# Altium integrated library CDE_Library.IntLib: 6171 symbols (part 3 of 25)
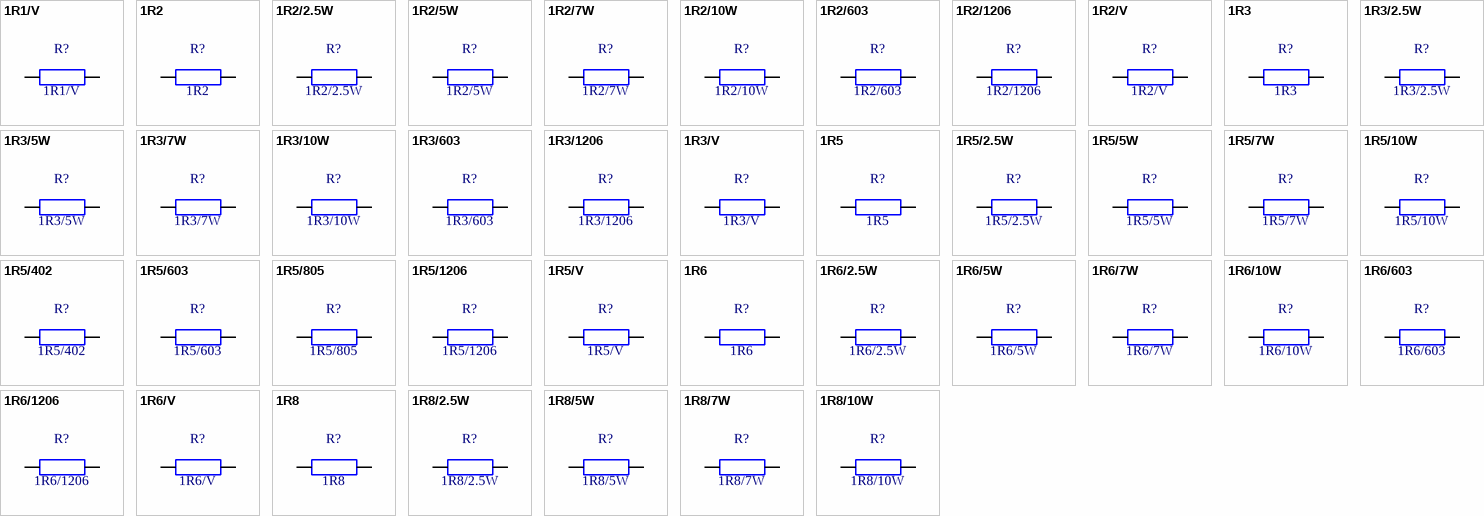
[diagram p259: symbols 1R1/V to 1R8/10W]

## 1R5/7W
designator R?
weerstand 1R5 7W
footprint ws 7W H
pins: 1, 2

## 1R5/10W
designator R?
weerstand 1R5 10W
footprint ws 10W H
pins: 1, 2

## 1R5/402
designator R?
weerstand SMD402, 1R5
footprint smd C0402_0.35
pins: 1, 2

## 1R5/603
designator R?
weerstand SMD603, 1R5
footprint smd C0603_0.45
pins: 1, 2

## 1R5/805
designator R?
weerstand SMD805, 1R5
footprint smd C0805_0.50
pins: 1, 2

## 1R5/1206
designator R?
weerstand SMD1206, 1R5
footprint smd C1206_0.55
pins: 1, 2

## 1R5/V
designator R?
weerstand 1R5 0.6W, vertikaal
footprint ws 0.6W V
pins: 1, 2

## 1R6
designator R?
weerstand 1R6 0.6W
footprint ws 0.6W H
pins: 1, 2

## 1R6/2.5W
designator R?
weerstand 1R6 2.5W
footprint ws 2.5W H
pins: 1, 2

## 1R6/5W
designator R?
weerstand 1R6 5W
footprint ws 5W H
pins: 1, 2

## 1R6/7W
designator R?
weerstand 1R6 7W
footprint ws 7W H
pins: 1, 2

## 1R6/10W
designator R?
weerstand 1R6 10W
footprint ws 10W H
pins: 1, 2

## 1R6/603
designator R?
weerstand SMD603, 1R6
footprint smd C0603_0.45
pins: 1, 2

## 1R6/1206
designator R?
weerstand SMD1206, 1R6
footprint smd C1206_0.55
pins: 1, 2

## 1R6/V
designator R?
weerstand 1R6 0.6W, vertikaal
footprint ws 0.6W V
pins: 1, 2

## 1R8
designator R?
weerstand 1R8 0.6W
footprint ws 0.6W H
pins: 1, 2

## 1R8/2.5W
designator R?
weerstand 1R8 2.5W
footprint ws 2.5W H
pins: 1, 2

## 1R8/5W
designator R?
weerstand 1R8 5W
footprint ws 5W H
pins: 1, 2

## 1R8/7W
designator R?
weerstand 1R8 7W
footprint ws 7W H
pins: 1, 2

## 1R8/10W
designator R?
weerstand 1R8 10W
footprint ws 10W H
pins: 1, 2

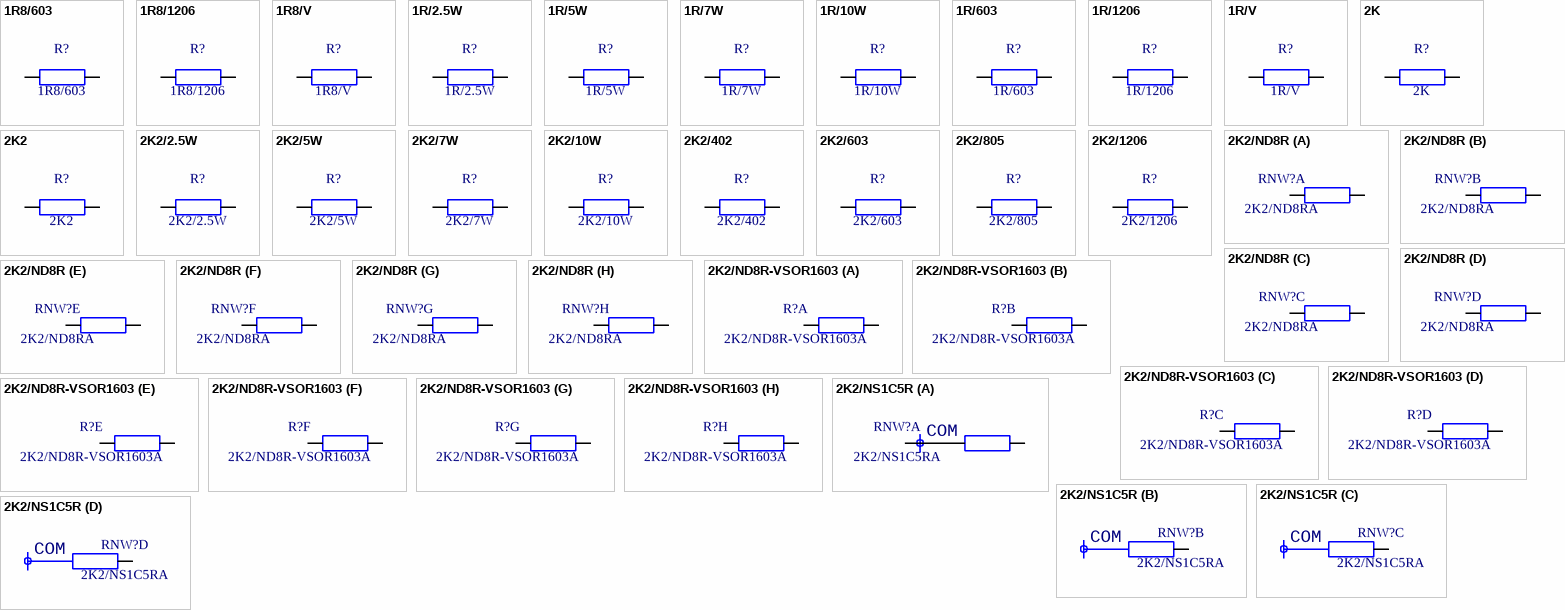
[diagram p31: symbols 1R8/603 to 2K2/NS1C5R]

## 1R8/603
designator R?
weerstand SMD603, 1R8
footprint smd C0603_0.45
pins: 1, 2

## 1R8/1206
designator R?
weerstand SMD1206, 1R8
footprint smd C1206_0.55
pins: 1, 2

## 1R8/V
designator R?
weerstand 1R8 0.6W, vertikaal
footprint ws 0.6W V
pins: 1, 2

## 1R/2.5W
designator R?
weerstand 1R 2.5W
footprint ws 2.5W H
pins: 1, 2

## 1R/5W
designator R?
weerstand 1R 5W
footprint ws 5W H
pins: 1, 2

## 1R/7W
designator R?
weerstand 1R 7W
footprint ws 7W H
pins: 1, 2

## 1R/10W
designator R?
weerstand 1R 10W
footprint ws 10W H
pins: 1, 2

## 1R/603
designator R?
weerstand SMD603, 1R
footprint smd C0603_0.45
pins: 1, 2

## 1R/1206
designator R?
weerstand SMD1206, 1R
footprint smd C1206_0.55
pins: 1, 2

## 1R/V
designator R?
weerstand 1R 0.6W, vertikaal
footprint ws 0.6W V
pins: 1, 2

## 2K
designator R?
weerstand 2K 0.6W
footprint ws 0.6W H
pins: 1, 2

## 2K2
designator R?
weerstand 2K2 0.6W
footprint ws 0.6W H
pins: 1, 2

## 2K2/2.5W
designator R?
weerstand 2K2 2.5W
footprint ws 2.5W H
pins: 1, 2

## 2K2/5W
designator R?
weerstand 2K2 5W
footprint ws 5W H
pins: 1, 2

## 2K2/7W
designator R?
weerstand 2K2 7W
footprint ws 7W H
pins: 1, 2

## 2K2/10W
designator R?
weerstand 2K2 10W
footprint ws 10W H
pins: 1, 2

## 2K2/402
designator R?
weerstand SMD402, 2K2
footprint smd C0402_0.35
pins: 1, 2

## 2K2/603
designator R?
weerstand SMD603, 2K2
footprint smd C0603_0.45
pins: 1, 2

## 2K2/805
designator R?
weerstand SMD805, 2K2
footprint smd C0805_0.50
pins: 1, 2

## 2K2/1206
designator R?
weerstand SMD1206, 2K2
footprint smd C1206_0.55
pins: 1, 2

## 2K2/ND8R
designator RNW?, comment 2K2/ND8RA
weerstandsnetwerk, DIL, 8 x 2K2
footprint icv DIP16-300
part A pins: 1, 16
part B pins: 2, 15
part C pins: 3, 14
part D pins: 4, 13
part E pins: 5, 12
part F pins: 6, 11
part G pins: 7, 10
part H pins: 8, 9

## 2K2/ND8R-VSOR1603
designator R?, comment 2K2/ND8R-VSOR1603A
weerstandsnetwerk, DIL, smd, Vishay VSOR1603, 8 x 2K2
footprint smd SOICN/16
part A pins: 1, 16
part B pins: 2, 15
part C pins: 3, 14
part D pins: 4, 13
part E pins: 5, 12
part F pins: 6, 11
part G pins: 7, 10
part H pins: 8, 9

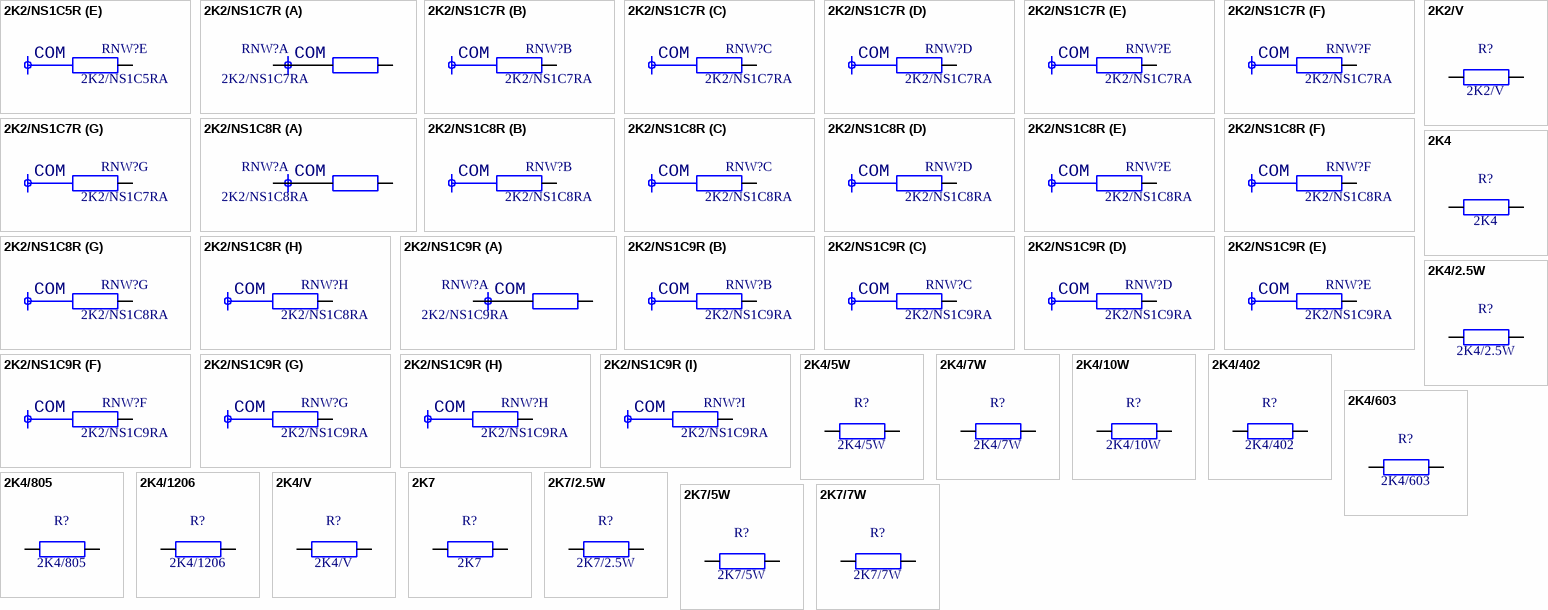
[diagram p32: symbols 2K2/NS1C5R to 2K7/7W]

## 2K2/NS1C5R
designator RNW?, comment 2K2/NS1C5RA
weerstandsnetwerk, SIL, 1 gemeens.pin, 5 weerst., 2K2
footprint ws netwerk 5xR 1C (SIL)
part A pins: 1, 2
part B pins: 3
part C pins: 4
part D pins: 5
part E pins: 6
part A text: COM
part B text: COM
part C text: COM
part D text: COM
part E text: COM

## 2K2/NS1C7R
designator RNW?, comment 2K2/NS1C7RA
weerstandsnetwerk, SIL, 1 gemeens.pin, 7 weerst., 2K2
footprint ws netwerk 7xR 1C (SIL)
part A pins: 1, 2
part B pins: 3
part C pins: 4
part D pins: 5
part E pins: 6
part F pins: 7
part G pins: 8
part A text: COM
part B text: COM
part C text: COM
part D text: COM
part E text: COM
part F text: COM
part G text: COM

## 2K2/NS1C8R
designator RNW?, comment 2K2/NS1C8RA
weerstandsnetwerk, SIL, 1 gemeens.pin, 8 weerst., 2K2
footprint ws netwerk 8xR 1C (SIL)
part A pins: 1, 2
part B pins: 3
part C pins: 4
part D pins: 5
part E pins: 6
part F pins: 7
part G pins: 8
part H pins: 9
part A text: COM
part B text: COM
part C text: COM
part D text: COM
part E text: COM
part F text: COM
part G text: COM
part H text: COM

## 2K2/NS1C9R
designator RNW?, comment 2K2/NS1C9RA
weerstandsnetwerk, SIL, 1 gemeens.pin, 9 weerst., 2K2
footprint ws netwerk 9xR 1C (SIL)
part A pins: 1, 2
part B pins: 3
part C pins: 4
part D pins: 5
part E pins: 6
part F pins: 7
part G pins: 8
part H pins: 9
part I pins: 10
part A text: COM
part B text: COM
part C text: COM
part D text: COM
part E text: COM
part F text: COM
part G text: COM
part H text: COM
part I text: COM

## 2K2/V
designator R?
weerstand 2K2 0.6W, vertikaal
footprint ws 0.6W V
pins: 1, 2

## 2K4
designator R?
weerstand 2K4 0.6W
footprint ws 0.6W H
pins: 1, 2

## 2K4/2.5W
designator R?
weerstand 2K4 2.5W
footprint ws 2.5W H
pins: 1, 2

## 2K4/5W
designator R?
weerstand 2K4 5W
footprint ws 5W H
pins: 1, 2

## 2K4/7W
designator R?
weerstand 2K4 7W
footprint ws 7W H
pins: 1, 2

## 2K4/10W
designator R?
weerstand 2K4 10W
footprint ws 10W H
pins: 1, 2

## 2K4/402
designator R?
weerstand SMD402, 2K4
footprint smd C0402_0.35
pins: 1, 2

## 2K4/603
designator R?
weerstand SMD603, 2K4
footprint smd C0603_0.45
pins: 1, 2

## 2K4/805
designator R?
weerstand SMD805, 2K4
footprint smd C0805_0.50
pins: 1, 2

## 2K4/1206
designator R?
weerstand SMD1206, 2K4
footprint smd C1206_0.55
pins: 1, 2

## 2K4/V
designator R?
weerstand 2K4 0.6W, vertikaal
footprint ws 0.6W V
pins: 1, 2

## 2K7
designator R?
weerstand 2K7 0.6W
footprint ws 0.6W H
pins: 1, 2

## 2K7/2.5W
designator R?
weerstand 2K7 2.5W
footprint ws 2.5W H
pins: 1, 2

## 2K7/5W
designator R?
weerstand 2K7 5W
footprint ws 5W H
pins: 1, 2

## 2K7/7W
designator R?
weerstand 2K7 7W
footprint ws 7W H
pins: 1, 2

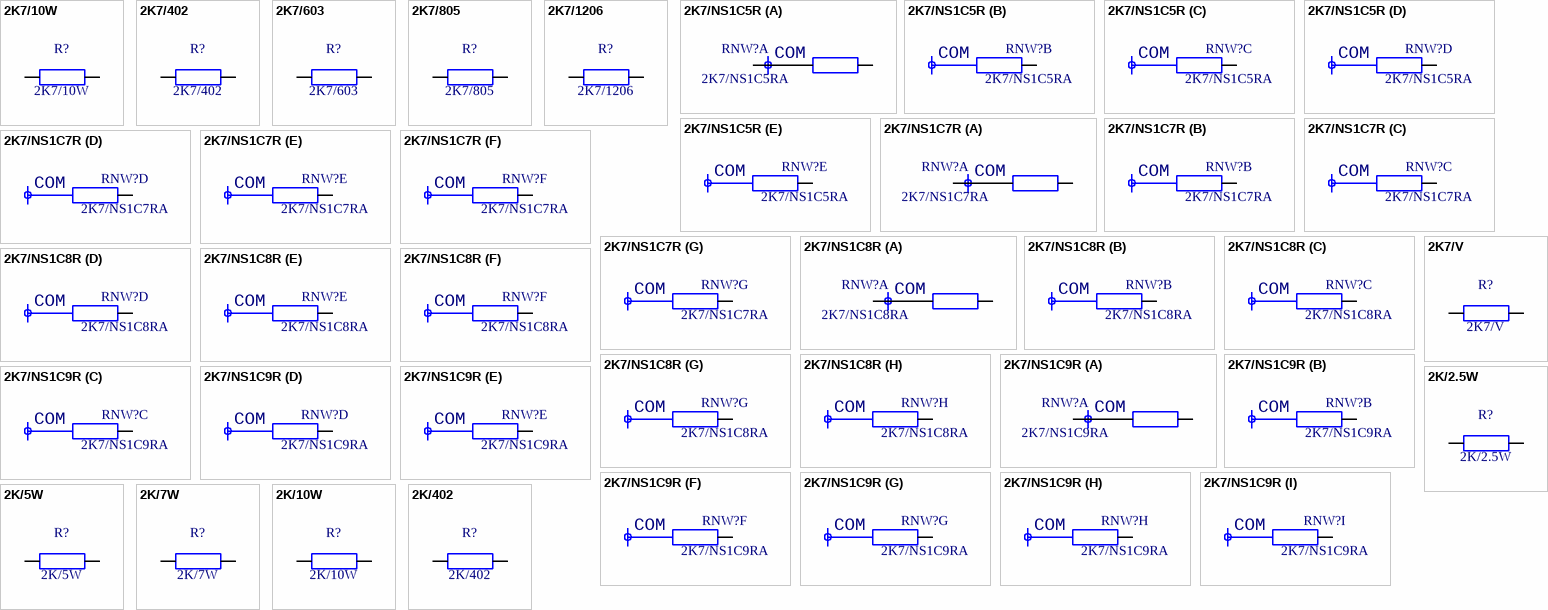
[diagram p33: symbols 2K7/10W to 2K/402]

## 2K7/10W
designator R?
weerstand 2K7 10W
footprint ws 10W H
pins: 1, 2

## 2K7/402
designator R?
weerstand SMD402, 2K7
footprint smd C0402_0.35
pins: 1, 2

## 2K7/603
designator R?
weerstand SMD603, 2K7
footprint smd C0603_0.45
pins: 1, 2

## 2K7/805
designator R?
weerstand SMD805, 2K7
footprint smd C0805_0.50
pins: 1, 2

## 2K7/1206
designator R?
weerstand SMD1206, 2K7
footprint smd C1206_0.55
pins: 1, 2

## 2K7/NS1C5R
designator RNW?, comment 2K7/NS1C5RA
weerstandsnetwerk, SIL, 1 gemeens.pin, 5 weerst., 2K7
footprint ws netwerk 5xR 1C (SIL)
part A pins: 1, 2
part B pins: 3
part C pins: 4
part D pins: 5
part E pins: 6
part A text: COM
part B text: COM
part C text: COM
part D text: COM
part E text: COM

## 2K7/NS1C7R
designator RNW?, comment 2K7/NS1C7RA
weerstandsnetwerk, SIL, 1 gemeens.pin, 7 weerst., 2K7
footprint ws netwerk 7xR 1C (SIL)
part A pins: 1, 2
part B pins: 3
part C pins: 4
part D pins: 5
part E pins: 6
part F pins: 7
part G pins: 8
part A text: COM
part B text: COM
part C text: COM
part D text: COM
part E text: COM
part F text: COM
part G text: COM

## 2K7/NS1C8R
designator RNW?, comment 2K7/NS1C8RA
weerstandsnetwerk, SIL, 1 gemeens.pin, 8 weerst., 2K7
footprint ws netwerk 8xR 1C (SIL)
part A pins: 1, 2
part B pins: 3
part C pins: 4
part D pins: 5
part E pins: 6
part F pins: 7
part G pins: 8
part H pins: 9
part A text: COM
part B text: COM
part C text: COM
part D text: COM
part E text: COM
part F text: COM
part G text: COM
part H text: COM

## 2K7/NS1C9R
designator RNW?, comment 2K7/NS1C9RA
weerstandsnetwerk, SIL, 1 gemeens.pin, 9 weerst., 2K7
footprint ws netwerk 9xR 1C (SIL)
part A pins: 1, 2
part B pins: 3
part C pins: 4
part D pins: 5
part E pins: 6
part F pins: 7
part G pins: 8
part H pins: 9
part I pins: 10
part A text: COM
part B text: COM
part C text: COM
part D text: COM
part E text: COM
part F text: COM
part G text: COM
part H text: COM
part I text: COM

## 2K7/V
designator R?
weerstand 2K7 0.6W, vertikaal
footprint ws 0.6W V
pins: 1, 2

## 2K/2.5W
designator R?
weerstand 2K 2.5W
footprint ws 2.5W H
pins: 1, 2

## 2K/5W
designator R?
weerstand 2K 5W
footprint ws 5W H
pins: 1, 2

## 2K/7W
designator R?
weerstand 2K 7W
footprint ws 7W H
pins: 1, 2

## 2K/10W
designator R?
weerstand 2K 10W
footprint ws 10W H
pins: 1, 2

## 2K/402
designator R?
weerstand SMD402, 2K
footprint smd C0402_0.35
pins: 1, 2

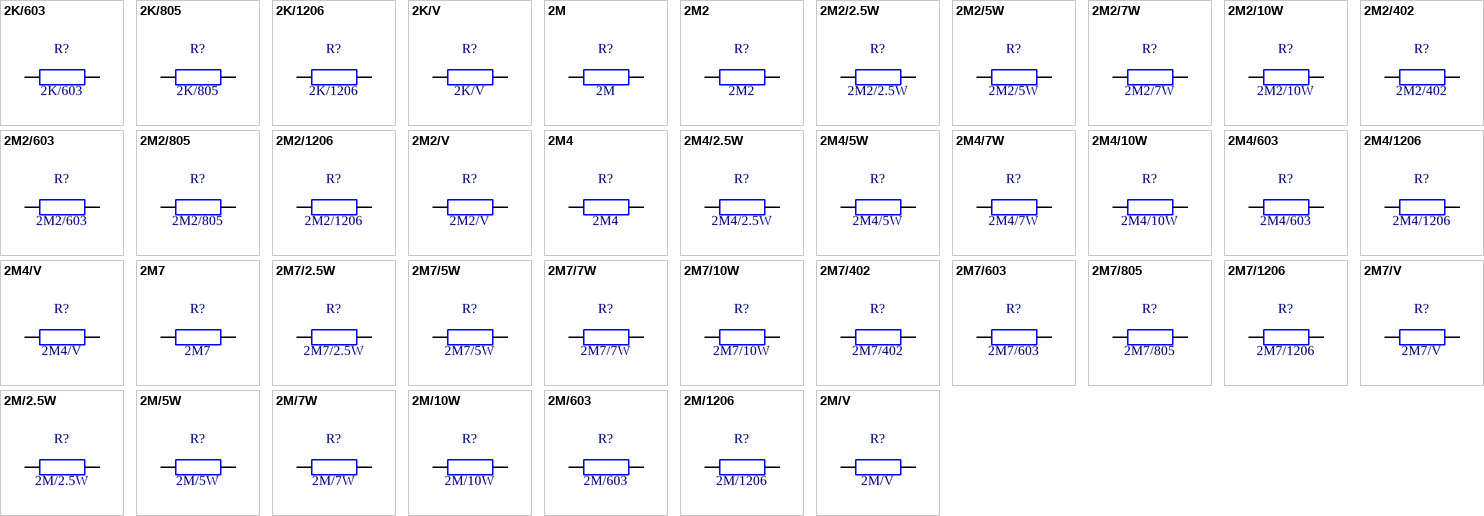
[diagram p34: symbols 2K/603 to 2M/V]

## 2K/603
designator R?
weerstand SMD603, 2K
footprint smd C0603_0.45
pins: 1, 2

## 2K/805
designator R?
weerstand SMD805, 2K
footprint smd C0805_0.50
pins: 1, 2

## 2K/1206
designator R?
weerstand SMD1206, 2K
footprint smd C1206_0.55
pins: 1, 2

## 2K/V
designator R?
weerstand 2K 0.6W, vertikaal
footprint ws 0.6W V
pins: 1, 2

## 2M
designator R?
weerstand 2M 0.6W
footprint ws 0.6W H
pins: 1, 2

## 2M2
designator R?
weerstand 2M2 0.6W
footprint ws 0.6W H
pins: 1, 2

## 2M2/2.5W
designator R?
weerstand 2M2 2.5W
footprint ws 2.5W H
pins: 1, 2

## 2M2/5W
designator R?
weerstand 2M2 5W
footprint ws 5W H
pins: 1, 2

## 2M2/7W
designator R?
weerstand 2M2 7W
footprint ws 7W H
pins: 1, 2

## 2M2/10W
designator R?
weerstand 2M2 10W
footprint ws 10W H
pins: 1, 2

## 2M2/402
designator R?
weerstand SMD402, 2M2
footprint smd C0402_0.35
pins: 1, 2

## 2M2/603
designator R?
weerstand SMD603, 2M2
footprint smd C0603_0.45
pins: 1, 2

## 2M2/805
designator R?
weerstand SMD805, 2M2
footprint smd C0805_0.50
pins: 1, 2

## 2M2/1206
designator R?
weerstand SMD1206, 2M2
footprint smd C1206_0.55
pins: 1, 2

## 2M2/V
designator R?
weerstand 2M2 0.6W, vertikaal
footprint ws 0.6W V
pins: 1, 2

## 2M4
designator R?
weerstand 2M4 0.6W
footprint ws 0.6W H
pins: 1, 2

## 2M4/2.5W
designator R?
weerstand 2M4 2.5W
footprint ws 2.5W H
pins: 1, 2

## 2M4/5W
designator R?
weerstand 2M4 5W
footprint ws 5W H
pins: 1, 2

## 2M4/7W
designator R?
weerstand 2M4 7W
footprint ws 7W H
pins: 1, 2

## 2M4/10W
designator R?
weerstand 2M4 10W
footprint ws 10W H
pins: 1, 2

## 2M4/603
designator R?
weerstand SMD603, 2M4
footprint smd C0603_0.45
pins: 1, 2

## 2M4/1206
designator R?
weerstand SMD1206, 2M4
footprint smd C1206_0.55
pins: 1, 2

## 2M4/V
designator R?
weerstand 2M4 0.6W, vertikaal
footprint ws 0.6W V
pins: 1, 2

## 2M7
designator R?
weerstand 2M7 0.6W
footprint ws 0.6W H
pins: 1, 2

## 2M7/2.5W
designator R?
weerstand 2M7 2.5W
footprint ws 2.5W H
pins: 1, 2

## 2M7/5W
designator R?
weerstand 2M7 5W
footprint ws 5W H
pins: 1, 2

## 2M7/7W
designator R?
weerstand 2M7 7W
footprint ws 7W H
pins: 1, 2

## 2M7/10W
designator R?
weerstand 2M7 10W
footprint ws 10W H
pins: 1, 2

## 2M7/402
designator R?
weerstand SMD402, 2M7
footprint smd C0402_0.35
pins: 1, 2

## 2M7/603
designator R?
weerstand SMD603, 2M7
footprint smd C0603_0.45
pins: 1, 2

## 2M7/805
designator R?
weerstand SMD805, 2M7
footprint smd C0805_0.50
pins: 1, 2

## 2M7/1206
designator R?
weerstand SMD1206, 2M7
footprint smd C1206_0.55
pins: 1, 2

## 2M7/V
designator R?
weerstand 2M7 0.6W, vertikaal
footprint ws 0.6W V
pins: 1, 2

## 2M/2.5W
designator R?
weerstand 2M 2.5W
footprint ws 2.5W H
pins: 1, 2

## 2M/5W
designator R?
weerstand 2M 5W
footprint ws 5W H
pins: 1, 2

## 2M/7W
designator R?
weerstand 2M 7W
footprint ws 7W H
pins: 1, 2

## 2M/10W
designator R?
weerstand 2M 10W
footprint ws 10W H
pins: 1, 2

## 2M/603
designator R?
weerstand SMD603, 2M
footprint smd C0603_0.45
pins: 1, 2

## 2M/1206
designator R?
weerstand SMD1206, 2M
footprint smd C1206_0.55
pins: 1, 2

## 2M/V
designator R?
weerstand 2M 0.6W, vertikaal
footprint ws 0.6W V
pins: 1, 2

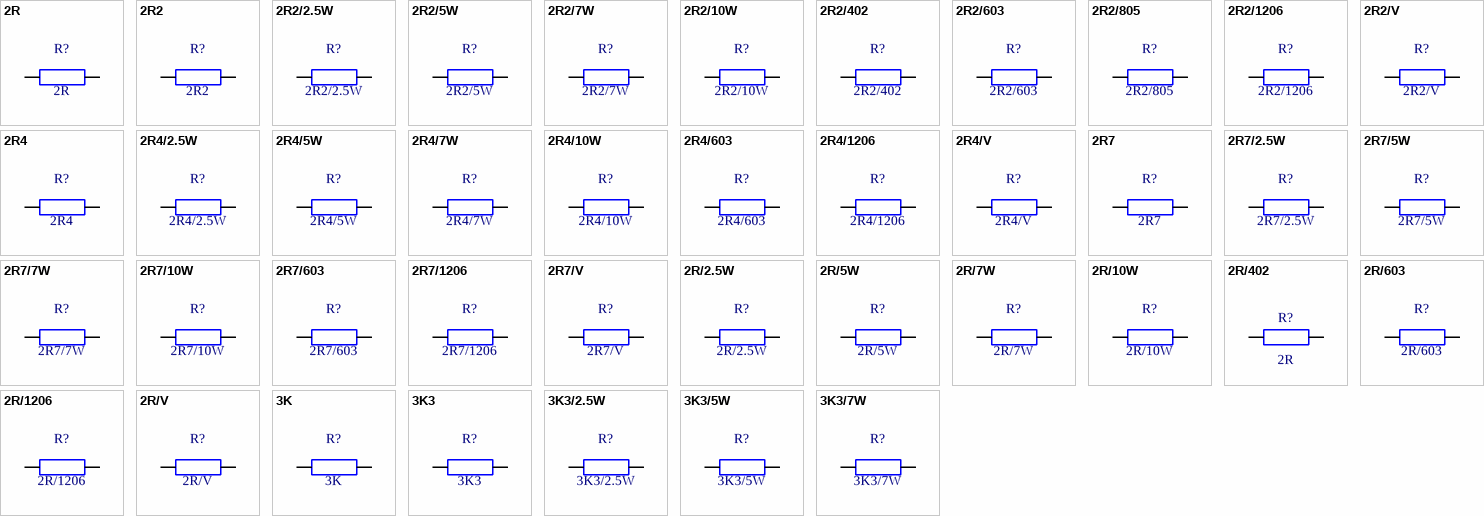
[diagram p35: symbols 2R to 3K3/7W]

## 2R
designator R?
weerstand 2R 0.6W
footprint ws 0.6W H
pins: 1, 2

## 2R2
designator R?
weerstand 2R2 0.6W
footprint ws 0.6W H
pins: 1, 2

## 2R2/2.5W
designator R?
weerstand 2R2 2.5W
footprint ws 2.5W H
pins: 1, 2

## 2R2/5W
designator R?
weerstand 2R2 5W
footprint ws 5W H
pins: 1, 2

## 2R2/7W
designator R?
weerstand 2R2 7W
footprint ws 7W H
pins: 1, 2

## 2R2/10W
designator R?
weerstand 2R2 10W
footprint ws 10W H
pins: 1, 2

## 2R2/402
designator R?
weerstand SMD402, 2R2
footprint smd C0402_0.35
pins: 1, 2

## 2R2/603
designator R?
weerstand SMD603, 2R2
footprint smd C0603_0.45
pins: 1, 2

## 2R2/805
designator R?
weerstand SMD805, 2R2
footprint smd C0805_0.50
pins: 1, 2

## 2R2/1206
designator R?
weerstand SMD1206, 2R2
footprint smd C1206_0.55
pins: 1, 2

## 2R2/V
designator R?
weerstand 2R2 0.6W, vertikaal
footprint ws 0.6W V
pins: 1, 2

## 2R4
designator R?
weerstand 2R4 0.6W
footprint ws 0.6W H
pins: 1, 2

## 2R4/2.5W
designator R?
weerstand 2R4 2.5W
footprint ws 2.5W H
pins: 1, 2

## 2R4/5W
designator R?
weerstand 2R4 5W
footprint ws 5W H
pins: 1, 2

## 2R4/7W
designator R?
weerstand 2R4 7W
footprint ws 7W H
pins: 1, 2

## 2R4/10W
designator R?
weerstand 2R4 10W
footprint ws 10W H
pins: 1, 2

## 2R4/603
designator R?
weerstand SMD603, 2R4
footprint smd C0603_0.45
pins: 1, 2

## 2R4/1206
designator R?
weerstand SMD1206, 2R4
footprint smd C1206_0.55
pins: 1, 2

## 2R4/V
designator R?
weerstand 2R4 0.6W, vertikaal
footprint ws 0.6W V
pins: 1, 2

## 2R7
designator R?
weerstand 2R7 0.6W
footprint ws 0.6W H
pins: 1, 2

## 2R7/2.5W
designator R?
weerstand 2R7 2.5W
footprint ws 2.5W H
pins: 1, 2

## 2R7/5W
designator R?
weerstand 2R7 5W
footprint ws 5W H
pins: 1, 2

## 2R7/7W
designator R?
weerstand 2R7 7W
footprint ws 7W H
pins: 1, 2

## 2R7/10W
designator R?
weerstand 2R7 10W
footprint ws 10W H
pins: 1, 2

## 2R7/603
designator R?
weerstand SMD603, 2R7
footprint smd C0603_0.45
pins: 1, 2

## 2R7/1206
designator R?
weerstand SMD1206, 2R7
footprint smd C1206_0.55
pins: 1, 2

## 2R7/V
designator R?
weerstand 2R7 0.6W, vertikaal
footprint ws 0.6W V
pins: 1, 2

## 2R/2.5W
designator R?
weerstand 2R 2.5W
footprint ws 2.5W H
pins: 1, 2

## 2R/5W
designator R?
weerstand 2R 5W
footprint ws 5W H
pins: 1, 2

## 2R/7W
designator R?
weerstand 2R 7W
footprint ws 7W H
pins: 1, 2

## 2R/10W
designator R?
weerstand 2R 10W
footprint ws 10W H
pins: 1, 2

## 2R/402
designator R?, comment 2R
weerstand SMD402, 2R
footprint smd C0402_0.35
pins: 1, 2

## 2R/603
designator R?
weerstand SMD603, 2R
footprint smd C0603_0.45
pins: 1, 2

## 2R/1206
designator R?
weerstand SMD1206, 2R
footprint smd C1206_0.55
pins: 1, 2

## 2R/V
designator R?
weerstand 2R 0.6W, vertikaal
footprint ws 0.6W V
pins: 1, 2

## 3K
designator R?
weerstand 3K 0.6W
footprint ws 0.6W H
pins: 1, 2

## 3K3
designator R?
weerstand 3K3 0.6W
footprint ws 0.6W H
pins: 1, 2

## 3K3/2.5W
designator R?
weerstand 3K3 2.5W
footprint ws 2.5W H
pins: 1, 2

## 3K3/5W
designator R?
weerstand 3K3 5W
footprint ws 5W H
pins: 1, 2

## 3K3/7W
designator R?
weerstand 3K3 7W
footprint ws 7W H
pins: 1, 2

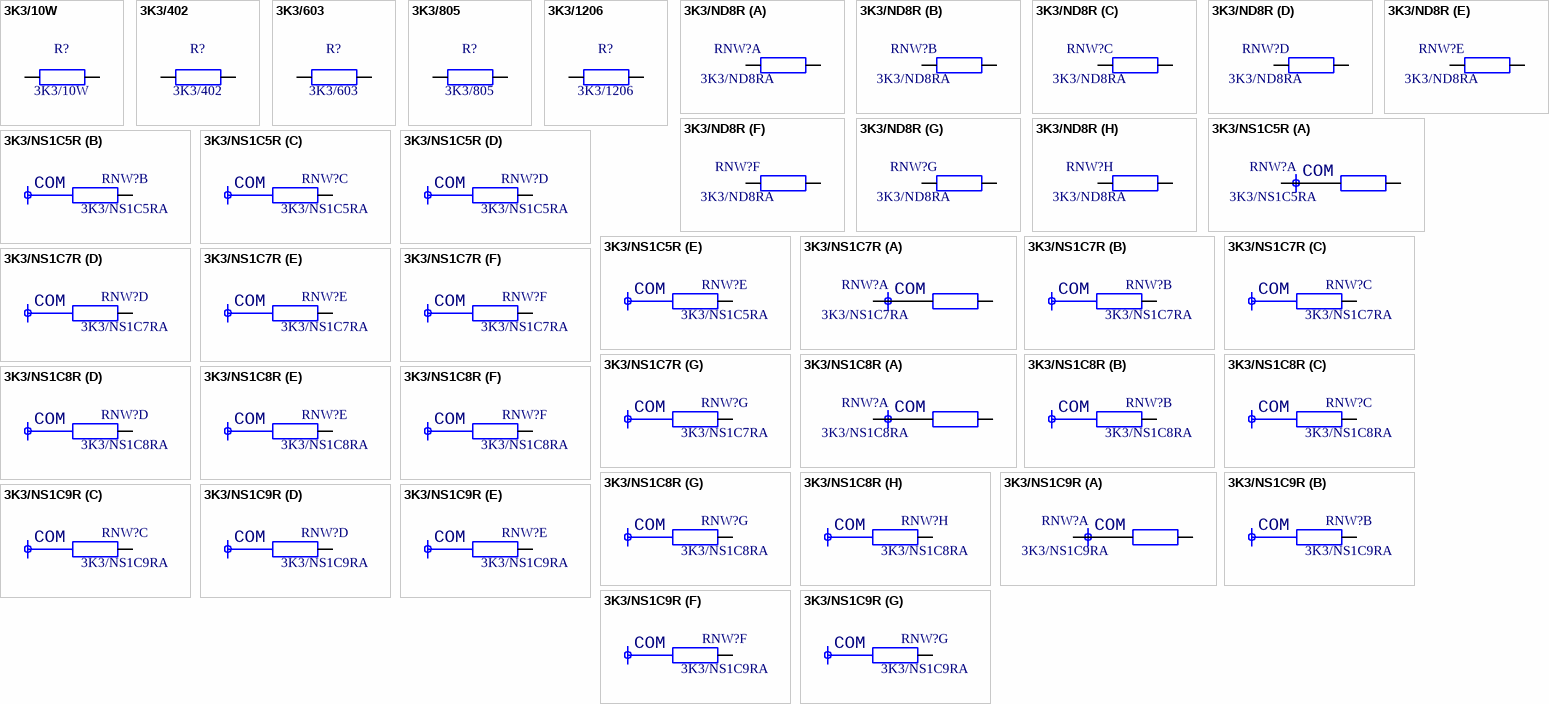
[diagram p36: symbols 3K3/10W to 3K3/NS1C9R]

## 3K3/10W
designator R?
weerstand 3K3 10W
footprint ws 10W H
pins: 1, 2

## 3K3/402
designator R?
weerstand SMD402, 3K3
footprint smd C0402_0.35
pins: 1, 2

## 3K3/603
designator R?
weerstand SMD603, 3K3
footprint smd C0603_0.45
pins: 1, 2

## 3K3/805
designator R?
weerstand SMD805, 3K3
footprint smd C0805_0.50
pins: 1, 2

## 3K3/1206
designator R?
weerstand SMD1206, 3K3
footprint smd C1206_0.55
pins: 1, 2

## 3K3/ND8R
designator RNW?, comment 3K3/ND8RA
weerstandsnetwerk, DIL, 8 x 3K3
footprint icv DIP16-300
part A pins: 1, 16
part B pins: 2, 15
part C pins: 3, 14
part D pins: 4, 13
part E pins: 5, 12
part F pins: 6, 11
part G pins: 7, 10
part H pins: 8, 9

## 3K3/NS1C5R
designator RNW?, comment 3K3/NS1C5RA
weerstandsnetwerk, SIL, 1 gemeens.pin, 5 weerst., 3K3
footprint ws netwerk 5xR 1C (SIL)
part A pins: 1, 2
part B pins: 3
part C pins: 4
part D pins: 5
part E pins: 6
part A text: COM
part B text: COM
part C text: COM
part D text: COM
part E text: COM

## 3K3/NS1C7R
designator RNW?, comment 3K3/NS1C7RA
weerstandsnetwerk, SIL, 1 gemeens.pin, 7 weerst., 3K3
footprint ws netwerk 7xR 1C (SIL)
part A pins: 1, 2
part B pins: 3
part C pins: 4
part D pins: 5
part E pins: 6
part F pins: 7
part G pins: 8
part A text: COM
part B text: COM
part C text: COM
part D text: COM
part E text: COM
part F text: COM
part G text: COM

## 3K3/NS1C8R
designator RNW?, comment 3K3/NS1C8RA
weerstandsnetwerk, SIL, 1 gemeens.pin, 8 weerst., 3K3
footprint ws netwerk 8xR 1C (SIL)
part A pins: 1, 2
part B pins: 3
part C pins: 4
part D pins: 5
part E pins: 6
part F pins: 7
part G pins: 8
part H pins: 9
part A text: COM
part B text: COM
part C text: COM
part D text: COM
part E text: COM
part F text: COM
part G text: COM
part H text: COM

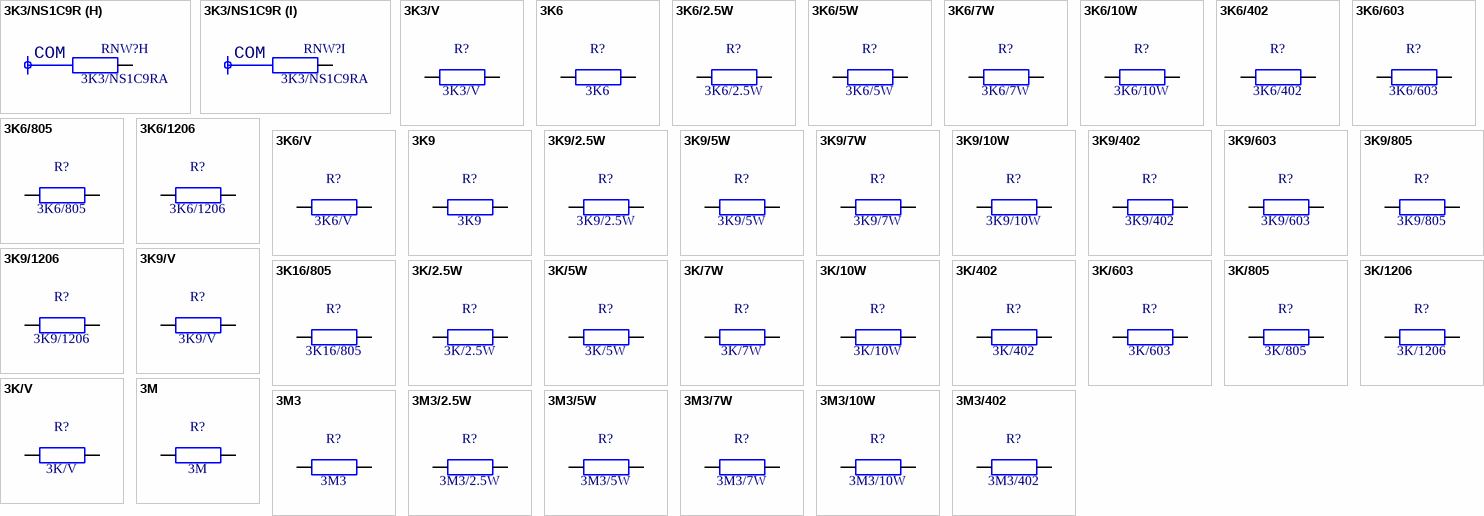
[diagram p37: symbols 3K3/NS1C9R to 3M3/402]

## 3K3/NS1C9R
designator RNW?, comment 3K3/NS1C9RA
weerstandsnetwerk, SIL, 1 gemeens.pin, 9 weerst., 3K3
footprint ws netwerk 9xR 1C (SIL)
part A pins: 1, 2
part B pins: 3
part C pins: 4
part D pins: 5
part E pins: 6
part F pins: 7
part G pins: 8
part H pins: 9
part I pins: 10
part A text: COM
part B text: COM
part C text: COM
part D text: COM
part E text: COM
part F text: COM
part G text: COM
part H text: COM
part I text: COM

## 3K3/V
designator R?
weerstand 3K3 0.6W, vertikaal
footprint ws 0.6W V
pins: 1, 2

## 3K6
designator R?
weerstand 3K6 0.6W
footprint ws 0.6W H
pins: 1, 2

## 3K6/2.5W
designator R?
weerstand 3K6 2.5W
footprint ws 2.5W H
pins: 1, 2

## 3K6/5W
designator R?
weerstand 3K6 5W
footprint ws 5W H
pins: 1, 2

## 3K6/7W
designator R?
weerstand 3K6 7W
footprint ws 7W H
pins: 1, 2

## 3K6/10W
designator R?
weerstand 3K6 10W
footprint ws 10W H
pins: 1, 2

## 3K6/402
designator R?
weerstand SMD402, 3K6
footprint smd C0402_0.35
pins: 1, 2

## 3K6/603
designator R?
weerstand SMD603, 3K6
footprint smd C0603_0.45
pins: 1, 2

## 3K6/805
designator R?
weerstand SMD805, 3K6
footprint smd C0805_0.50
pins: 1, 2

## 3K6/1206
designator R?
weerstand SMD1206, 3K6
footprint smd C1206_0.55
pins: 1, 2

## 3K6/V
designator R?
weerstand 3K6 0.6W, vertikaal
footprint ws 0.6W V
pins: 1, 2

## 3K9
designator R?
weerstand 3K9 0.6W
footprint ws 0.6W H
pins: 1, 2

## 3K9/2.5W
designator R?
weerstand 3K9 2.5W
footprint ws 2.5W H
pins: 1, 2

## 3K9/5W
designator R?
weerstand 3K9 5W
footprint ws 5W H
pins: 1, 2

## 3K9/7W
designator R?
weerstand 3K9 7W
footprint ws 7W H
pins: 1, 2

## 3K9/10W
designator R?
weerstand 3K9 10W
footprint ws 10W H
pins: 1, 2

## 3K9/402
designator R?
weerstand SMD402, 3K9
footprint smd C0402_0.35
pins: 1, 2

## 3K9/603
designator R?
weerstand SMD603, 3K9
footprint smd C0603_0.45
pins: 1, 2

## 3K9/805
designator R?
weerstand SMD805, 3K9
footprint smd C0805_0.50
pins: 1, 2

## 3K9/1206
designator R?
weerstand SMD1206, 3K9
footprint smd C1206_0.55
pins: 1, 2

## 3K9/V
designator R?
weerstand 3K9 0.6W, vertikaal
footprint ws 0.6W V
pins: 1, 2

## 3K16/805
designator R?
weerstand SMD805, 3K16
footprint smd C0805_0.50
pins: 1, 2

## 3K/2.5W
designator R?
weerstand 3K 2.5W
footprint ws 2.5W H
pins: 1, 2

## 3K/5W
designator R?
weerstand 3K 5W
footprint ws 5W H
pins: 1, 2

## 3K/7W
designator R?
weerstand 3K 7W
footprint ws 7W H
pins: 1, 2

## 3K/10W
designator R?
weerstand 3K 10W
footprint ws 10W H
pins: 1, 2

## 3K/402
designator R?
weerstand SMD402, 3K
footprint smd C0402_0.35
pins: 1, 2

## 3K/603
designator R?
weerstand SMD603, 3K
footprint smd C0603_0.45
pins: 1, 2

## 3K/805
designator R?
weerstand SMD805, 3K
footprint smd C0805_0.50
pins: 1, 2

## 3K/1206
designator R?
weerstand SMD1206, 3K
footprint smd C1206_0.55
pins: 1, 2

## 3K/V
designator R?
weerstand 3K 0.6W, vertikaal
footprint ws 0.6W V
pins: 1, 2

## 3M
designator R?
weerstand 3M 0.6W
footprint ws 0.6W H
pins: 1, 2

## 3M3
designator R?
weerstand 3M3 0.6W
footprint ws 0.6W H
pins: 1, 2

## 3M3/2.5W
designator R?
weerstand 3M3 2.5W
footprint ws 2.5W H
pins: 1, 2

## 3M3/5W
designator R?
weerstand 3M3 5W
footprint ws 5W H
pins: 1, 2

## 3M3/7W
designator R?
weerstand 3M3 7W
footprint ws 7W H
pins: 1, 2

## 3M3/10W
designator R?
weerstand 3M3 10W
footprint ws 10W H
pins: 1, 2

## 3M3/402
designator R?
weerstand SMD402, 3M3
footprint smd C0402_0.35
pins: 1, 2

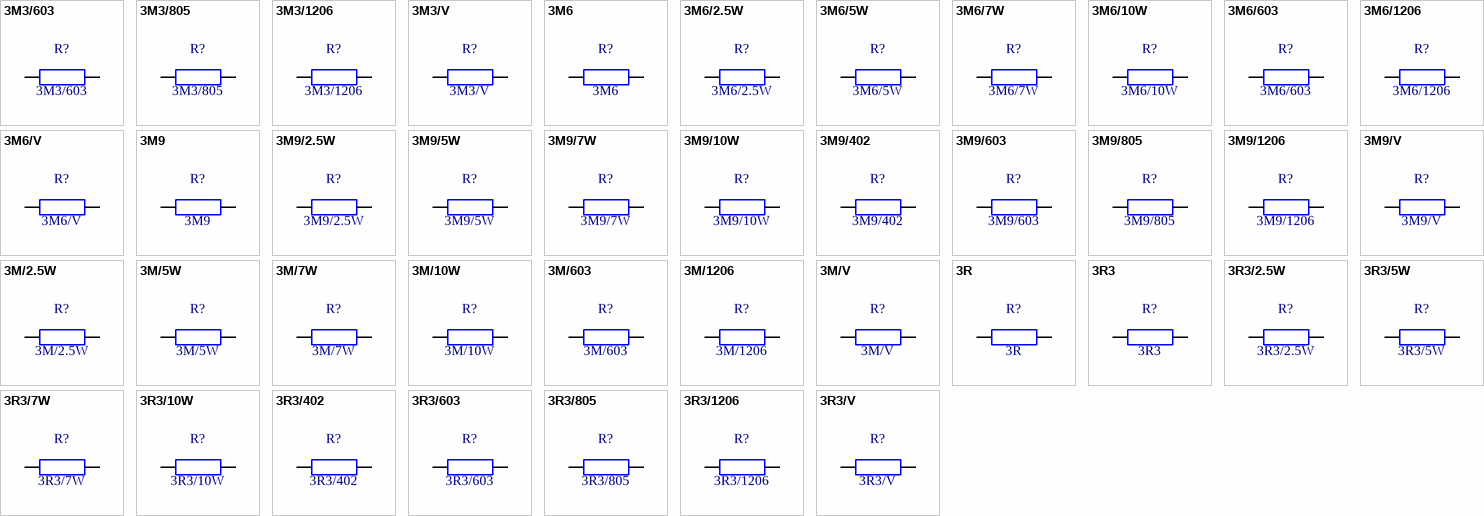
[diagram p38: symbols 3M3/603 to 3R3/V]

## 3M3/603
designator R?
weerstand SMD603, 3M3
footprint smd C0603_0.45
pins: 1, 2

## 3M3/805
designator R?
weerstand SMD805, 3M3
footprint smd C0805_0.50
pins: 1, 2

## 3M3/1206
designator R?
weerstand SMD1206, 3M3
footprint smd C1206_0.55
pins: 1, 2

## 3M3/V
designator R?
weerstand 3M3 0.6W, vertikaal
footprint ws 0.6W V
pins: 1, 2

## 3M6
designator R?
weerstand 3M6 0.6W
footprint ws 0.6W H
pins: 1, 2

## 3M6/2.5W
designator R?
weerstand 3M6 2.5W
footprint ws 2.5W H
pins: 1, 2

## 3M6/5W
designator R?
weerstand 3M6 5W
footprint ws 5W H
pins: 1, 2

## 3M6/7W
designator R?
weerstand 3M6 7W
footprint ws 7W H
pins: 1, 2

## 3M6/10W
designator R?
weerstand 3M6 10W
footprint ws 10W H
pins: 1, 2

## 3M6/603
designator R?
weerstand SMD603, 3M6
footprint smd C0603_0.45
pins: 1, 2

## 3M6/1206
designator R?
weerstand SMD1206, 3M6
footprint smd C1206_0.55
pins: 1, 2

## 3M6/V
designator R?
weerstand 3M6 0.6W, vertikaal
footprint ws 0.6W V
pins: 1, 2

## 3M9
designator R?
weerstand 3M9 0.6W
footprint ws 0.6W H
pins: 1, 2

## 3M9/2.5W
designator R?
weerstand 3M9 2.5W
footprint ws 2.5W H
pins: 1, 2

## 3M9/5W
designator R?
weerstand 3M9 5W
footprint ws 5W H
pins: 1, 2

## 3M9/7W
designator R?
weerstand 3M9 7W
footprint ws 7W H
pins: 1, 2

## 3M9/10W
designator R?
weerstand 3M9 10W
footprint ws 10W H
pins: 1, 2

## 3M9/402
designator R?
weerstand SMD402, 3M9
footprint smd C0402_0.35
pins: 1, 2

## 3M9/603
designator R?
weerstand SMD603, 3M9
footprint smd C0603_0.45
pins: 1, 2

## 3M9/805
designator R?
weerstand SMD805, 3M9
footprint smd C0805_0.50
pins: 1, 2

## 3M9/1206
designator R?
weerstand SMD1206, 3M9
footprint smd C1206_0.55
pins: 1, 2

## 3M9/V
designator R?
weerstand 3M9 0.6W, vertikaal
footprint ws 0.6W V
pins: 1, 2

## 3M/2.5W
designator R?
weerstand 3M 2.5W
footprint ws 2.5W H
pins: 1, 2

## 3M/5W
designator R?
weerstand 3M 5W
footprint ws 5W H
pins: 1, 2

## 3M/7W
designator R?
weerstand 3M 7W
footprint ws 7W H
pins: 1, 2

## 3M/10W
designator R?
weerstand 3M 10W
footprint ws 10W H
pins: 1, 2

## 3M/603
designator R?
weerstand SMD603, 3M
footprint smd C0603_0.45
pins: 1, 2

## 3M/1206
designator R?
weerstand SMD1206, 3M
footprint smd C1206_0.55
pins: 1, 2

## 3M/V
designator R?
weerstand 3M 0.6W, vertikaal
footprint ws 0.6W V
pins: 1, 2

## 3R
designator R?
weerstand 3R 0.6W
footprint ws 0.6W H
pins: 1, 2

## 3R3
designator R?
weerstand 3R3 0.6W
footprint ws 0.6W H
pins: 1, 2

## 3R3/2.5W
designator R?
weerstand 3R3 2.5W
footprint ws 2.5W H
pins: 1, 2

## 3R3/5W
designator R?
weerstand 3R3 5W
footprint ws 5W H
pins: 1, 2

## 3R3/7W
designator R?
weerstand 3R3 7W
footprint ws 7W H
pins: 1, 2

## 3R3/10W
designator R?
weerstand 3R3 10W
footprint ws 10W H
pins: 1, 2

## 3R3/402
designator R?
weerstand SMD402, 3R3
footprint smd C0402_0.35
pins: 1, 2

## 3R3/603
designator R?
weerstand SMD603, 3R3
footprint smd C0603_0.45
pins: 1, 2

## 3R3/805
designator R?
weerstand SMD805, 3R3
footprint smd C0805_0.50
pins: 1, 2

## 3R3/1206
designator R?
weerstand SMD1206, 3R3
footprint smd C1206_0.55
pins: 1, 2

## 3R3/V
designator R?
weerstand 3R3 0.6W, vertikaal
footprint ws 0.6W V
pins: 1, 2

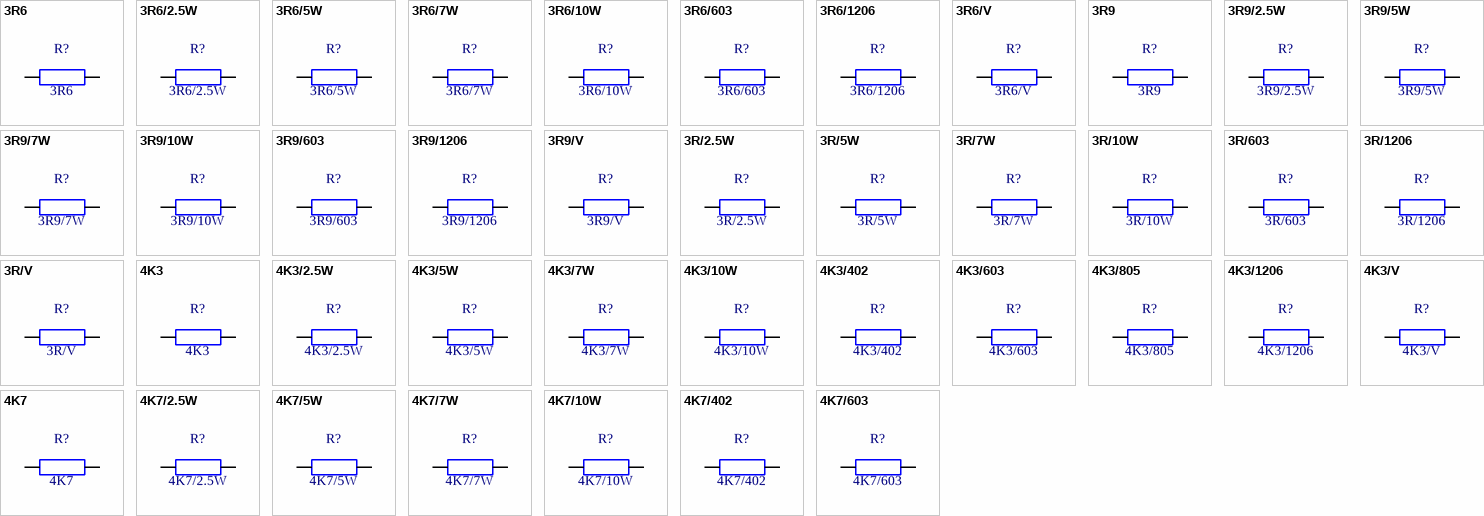
[diagram p39: symbols 3R6 to 4K7/603]

## 3R6
designator R?
weerstand 3R6 0.6W
footprint ws 0.6W H
pins: 1, 2

## 3R6/2.5W
designator R?
weerstand 3R6 2.5W
footprint ws 2.5W H
pins: 1, 2

## 3R6/5W
designator R?
weerstand 3R6 5W
footprint ws 5W H
pins: 1, 2

## 3R6/7W
designator R?
weerstand 3R6 7W
footprint ws 7W H
pins: 1, 2

## 3R6/10W
designator R?
weerstand 3R6 10W
footprint ws 10W H
pins: 1, 2

## 3R6/603
designator R?
weerstand SMD603, 3R6
footprint smd C0603_0.45
pins: 1, 2

## 3R6/1206
designator R?
weerstand SMD1206, 3R6
footprint smd C1206_0.55
pins: 1, 2

## 3R6/V
designator R?
weerstand 3R6 0.6W, vertikaal
footprint ws 0.6W V
pins: 1, 2

## 3R9
designator R?
weerstand 3R9 0.6W
footprint ws 0.6W H
pins: 1, 2

## 3R9/2.5W
designator R?
weerstand 3R9 2.5W
footprint ws 2.5W H
pins: 1, 2

## 3R9/5W
designator R?
weerstand 3R9 5W
footprint ws 5W H
pins: 1, 2

## 3R9/7W
designator R?
weerstand 3R9 7W
footprint ws 7W H
pins: 1, 2

## 3R9/10W
designator R?
weerstand 3R9 10W
footprint ws 10W H
pins: 1, 2

## 3R9/603
designator R?
weerstand SMD603, 3R9
footprint smd C0603_0.45
pins: 1, 2

## 3R9/1206
designator R?
weerstand SMD1206, 3R9
footprint smd C1206_0.55
pins: 1, 2

## 3R9/V
designator R?
weerstand 3R9 0.6W, vertikaal
footprint ws 0.6W V
pins: 1, 2

## 3R/2.5W
designator R?
weerstand 3R 2.5W
footprint ws 2.5W H
pins: 1, 2

## 3R/5W
designator R?
weerstand 3R 5W
footprint ws 5W H
pins: 1, 2

## 3R/7W
designator R?
weerstand 3R 7W
footprint ws 7W H
pins: 1, 2

## 3R/10W
designator R?
weerstand 3R 10W
footprint ws 10W H
pins: 1, 2

## 3R/603
designator R?
weerstand SMD603, 3R
footprint smd C0603_0.45
pins: 1, 2

## 3R/1206
designator R?
weerstand SMD1206, 3R
footprint smd C1206_0.55
pins: 1, 2

## 3R/V
designator R?
weerstand 3R 0.6W, vertikaal
footprint ws 0.6W V
pins: 1, 2

## 4K3
designator R?
weerstand 4K3 0.6W
footprint ws 0.6W H
pins: 1, 2

## 4K3/2.5W
designator R?
weerstand 4K3 2.5W
footprint ws 2.5W H
pins: 1, 2

## 4K3/5W
designator R?
weerstand 4K3 5W
footprint ws 5W H
pins: 1, 2

## 4K3/7W
designator R?
weerstand 4K3 7W
footprint ws 7W H
pins: 1, 2

## 4K3/10W
designator R?
weerstand 4K3 10W
footprint ws 10W H
pins: 1, 2

## 4K3/402
designator R?
weerstand SMD402, 4K3
footprint smd C0402_0.35
pins: 1, 2

## 4K3/603
designator R?
weerstand SMD603, 4K3
footprint smd C0603_0.45
pins: 1, 2

## 4K3/805
designator R?
weerstand SMD805, 4K3
footprint smd C0805_0.50
pins: 1, 2

## 4K3/1206
designator R?
weerstand SMD1206, 4K3
footprint smd C1206_0.55
pins: 1, 2

## 4K3/V
designator R?
weerstand 4K3 0.6W, vertikaal
footprint ws 0.6W V
pins: 1, 2

## 4K7
designator R?
weerstand 4K7 0.6W
footprint ws 0.6W H
pins: 1, 2

## 4K7/2.5W
designator R?
weerstand 4K7 2.5W
footprint ws 2.5W H
pins: 1, 2

## 4K7/5W
designator R?
weerstand 4K7 5W
footprint ws 5W H
pins: 1, 2

## 4K7/7W
designator R?
weerstand 4K7 7W
footprint ws 7W H
pins: 1, 2

## 4K7/10W
designator R?
weerstand 4K7 10W
footprint ws 10W H
pins: 1, 2

## 4K7/402
designator R?
weerstand SMD402, 4K7
footprint smd C0402_0.35
pins: 1, 2

## 4K7/603
designator R?
weerstand SMD603, 4K7
footprint smd C0603_0.45
pins: 1, 2

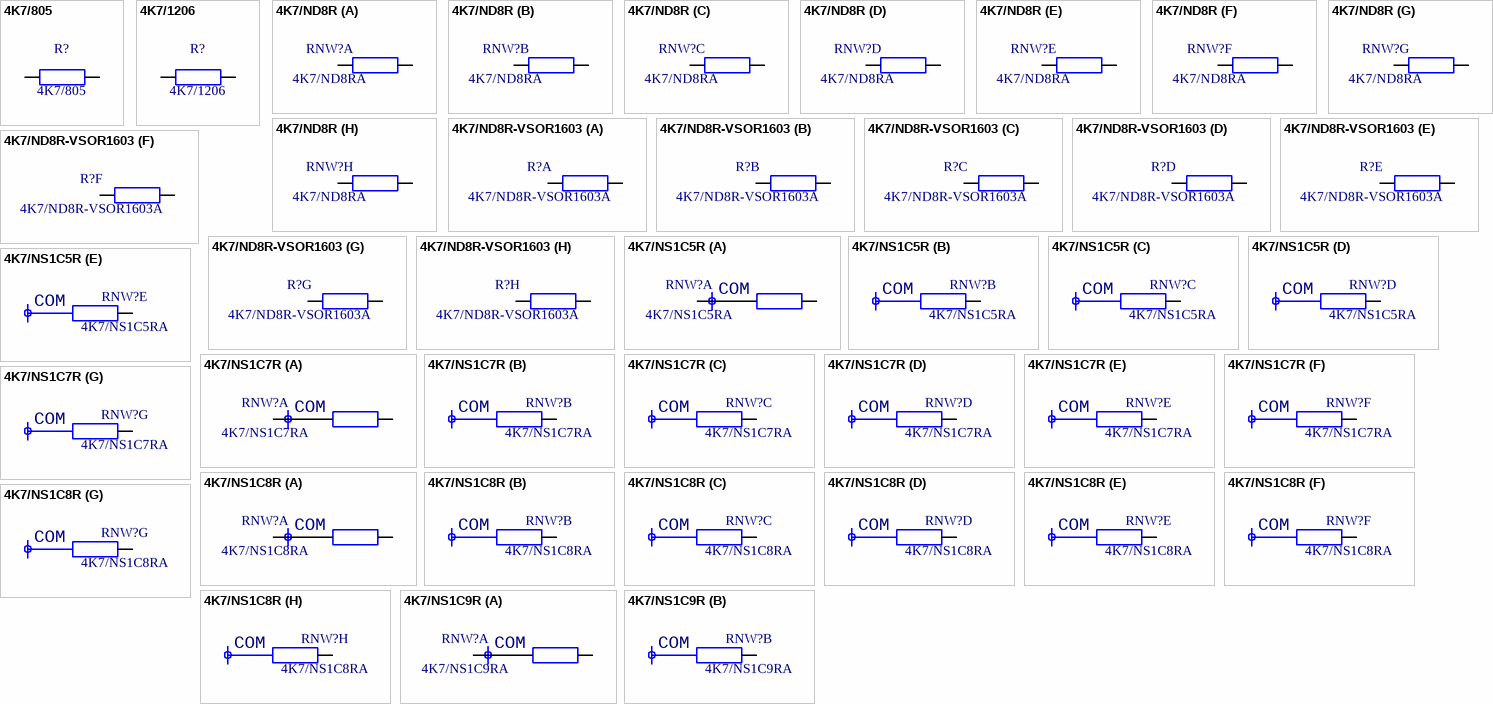
[diagram p40: symbols 4K7/805 to 4K7/NS1C9R]

## 4K7/805
designator R?
weerstand SMD805, 4K7
footprint smd C0805_0.50
pins: 1, 2

## 4K7/1206
designator R?
weerstand SMD1206, 4K7
footprint smd C1206_0.55
pins: 1, 2

## 4K7/ND8R
designator RNW?, comment 4K7/ND8RA
weerstandsnetwerk, DIL, 8 x 4K7
footprint icv DIP16-300
part A pins: 1, 16
part B pins: 2, 15
part C pins: 3, 14
part D pins: 4, 13
part E pins: 5, 12
part F pins: 6, 11
part G pins: 7, 10
part H pins: 8, 9

## 4K7/ND8R-VSOR1603
designator R?, comment 4K7/ND8R-VSOR1603A
weerstandsnetwerk, DIL, smd, Vishay VSOR1603, 8 x 4K7
footprint smd SOICN/16
part A pins: 1, 16
part B pins: 2, 15
part C pins: 3, 14
part D pins: 4, 13
part E pins: 5, 12
part F pins: 6, 11
part G pins: 7, 10
part H pins: 8, 9

## 4K7/NS1C5R
designator RNW?, comment 4K7/NS1C5RA
weerstandsnetwerk, SIL, 1 gemeens.pin, 5 weerst., 4K7
footprint ws netwerk 5xR 1C (SIL)
part A pins: 1, 2
part B pins: 3
part C pins: 4
part D pins: 5
part E pins: 6
part A text: COM
part B text: COM
part C text: COM
part D text: COM
part E text: COM

## 4K7/NS1C7R
designator RNW?, comment 4K7/NS1C7RA
weerstandsnetwerk, SIL, 1 gemeens.pin, 7 weerst., 4K7
footprint ws netwerk 7xR 1C (SIL)
part A pins: 1, 2
part B pins: 3
part C pins: 4
part D pins: 5
part E pins: 6
part F pins: 7
part G pins: 8
part A text: COM
part B text: COM
part C text: COM
part D text: COM
part E text: COM
part F text: COM
part G text: COM

## 4K7/NS1C8R
designator RNW?, comment 4K7/NS1C8RA
weerstandsnetwerk, SIL, 1 gemeens.pin, 8 weerst., 4K7
footprint ws netwerk 8xR 1C (SIL)
part A pins: 1, 2
part B pins: 3
part C pins: 4
part D pins: 5
part E pins: 6
part F pins: 7
part G pins: 8
part H pins: 9
part A text: COM
part B text: COM
part C text: COM
part D text: COM
part E text: COM
part F text: COM
part G text: COM
part H text: COM

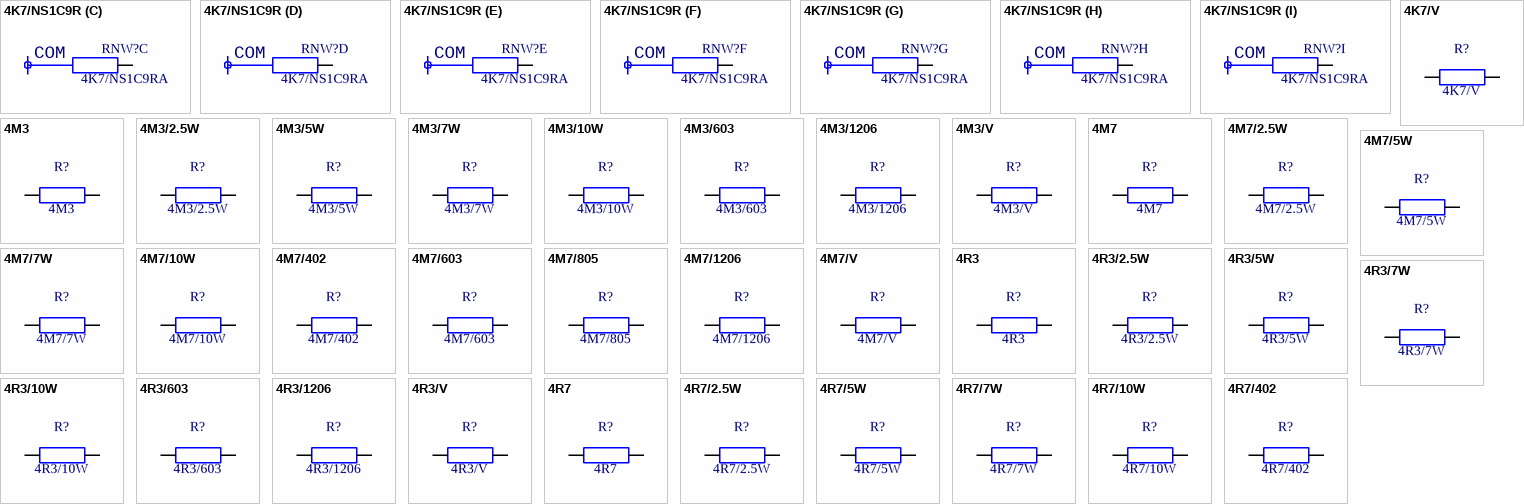
[diagram p41: symbols 4K7/NS1C9R to 4R7/402]

## 4K7/NS1C9R
designator RNW?, comment 4K7/NS1C9RA
weerstandsnetwerk, SIL, 1 gemeens.pin, 9 weerst., 4K7
footprint ws netwerk 9xR 1C (SIL)
part A pins: 1, 2
part B pins: 3
part C pins: 4
part D pins: 5
part E pins: 6
part F pins: 7
part G pins: 8
part H pins: 9
part I pins: 10
part A text: COM
part B text: COM
part C text: COM
part D text: COM
part E text: COM
part F text: COM
part G text: COM
part H text: COM
part I text: COM

## 4K7/V
designator R?
weerstand 4K7 0.6W, vertikaal
footprint ws 0.6W V
pins: 1, 2

## 4M3
designator R?
weerstand 4M3 0.6W
footprint ws 0.6W H
pins: 1, 2

## 4M3/2.5W
designator R?
weerstand 4M3 2.5W
footprint ws 2.5W H
pins: 1, 2

## 4M3/5W
designator R?
weerstand 4M3 5W
footprint ws 5W H
pins: 1, 2

## 4M3/7W
designator R?
weerstand 4M3 7W
footprint ws 7W H
pins: 1, 2

## 4M3/10W
designator R?
weerstand 4M3 10W
footprint ws 10W H
pins: 1, 2

## 4M3/603
designator R?
weerstand SMD603, 4M3
footprint smd C0603_0.45
pins: 1, 2

## 4M3/1206
designator R?
weerstand SMD1206, 4M3
footprint smd C1206_0.55
pins: 1, 2

## 4M3/V
designator R?
weerstand 4M3 0.6W, vertikaal
footprint ws 0.6W V
pins: 1, 2

## 4M7
designator R?
weerstand 4M7 0.6W
footprint ws 0.6W H
pins: 1, 2

## 4M7/2.5W
designator R?
weerstand 4M7 2.5W
footprint ws 2.5W H
pins: 1, 2

## 4M7/5W
designator R?
weerstand 4M7 5W
footprint ws 5W H
pins: 1, 2

## 4M7/7W
designator R?
weerstand 4M7 7W
footprint ws 7W H
pins: 1, 2

## 4M7/10W
designator R?
weerstand 4M7 10W
footprint ws 10W H
pins: 1, 2

## 4M7/402
designator R?
weerstand SMD402, 4M7
footprint smd C0402_0.35
pins: 1, 2

## 4M7/603
designator R?
weerstand SMD603, 4M7
footprint smd C0603_0.45
pins: 1, 2

## 4M7/805
designator R?
weerstand SMD805, 4M7
footprint smd C0805_0.50
pins: 1, 2

## 4M7/1206
designator R?
weerstand SMD1206, 4M7
footprint smd C1206_0.55
pins: 1, 2

## 4M7/V
designator R?
weerstand 4M7 0.6W, vertikaal
footprint ws 0.6W V
pins: 1, 2

## 4R3
designator R?
weerstand 4R3 0.6W
footprint ws 0.6W H
pins: 1, 2

## 4R3/2.5W
designator R?
weerstand 4R3 2.5W
footprint ws 2.5W H
pins: 1, 2

## 4R3/5W
designator R?
weerstand 4R3 5W
footprint ws 5W H
pins: 1, 2

## 4R3/7W
designator R?
weerstand 4R3 7W
footprint ws 7W H
pins: 1, 2

## 4R3/10W
designator R?
weerstand 4R3 10W
footprint ws 10W H
pins: 1, 2

## 4R3/603
designator R?
weerstand SMD603, 4R3
footprint smd C0603_0.45
pins: 1, 2

## 4R3/1206
designator R?
weerstand SMD1206, 4R3
footprint smd C1206_0.55
pins: 1, 2

## 4R3/V
designator R?
weerstand 4R3 0.6W, vertikaal
footprint ws 0.6W V
pins: 1, 2

## 4R7
designator R?
weerstand 4R7 0.6W
footprint ws 0.6W H
pins: 1, 2

## 4R7/2.5W
designator R?
weerstand 4R7 2.5W
footprint ws 2.5W H
pins: 1, 2

## 4R7/5W
designator R?
weerstand 4R7 5W
footprint ws 5W H
pins: 1, 2

## 4R7/7W
designator R?
weerstand 4R7 7W
footprint ws 7W H
pins: 1, 2

## 4R7/10W
designator R?
weerstand 4R7 10W
footprint ws 10W H
pins: 1, 2

## 4R7/402
designator R?
weerstand SMD402, 4R7
footprint smd C0402_0.35
pins: 1, 2

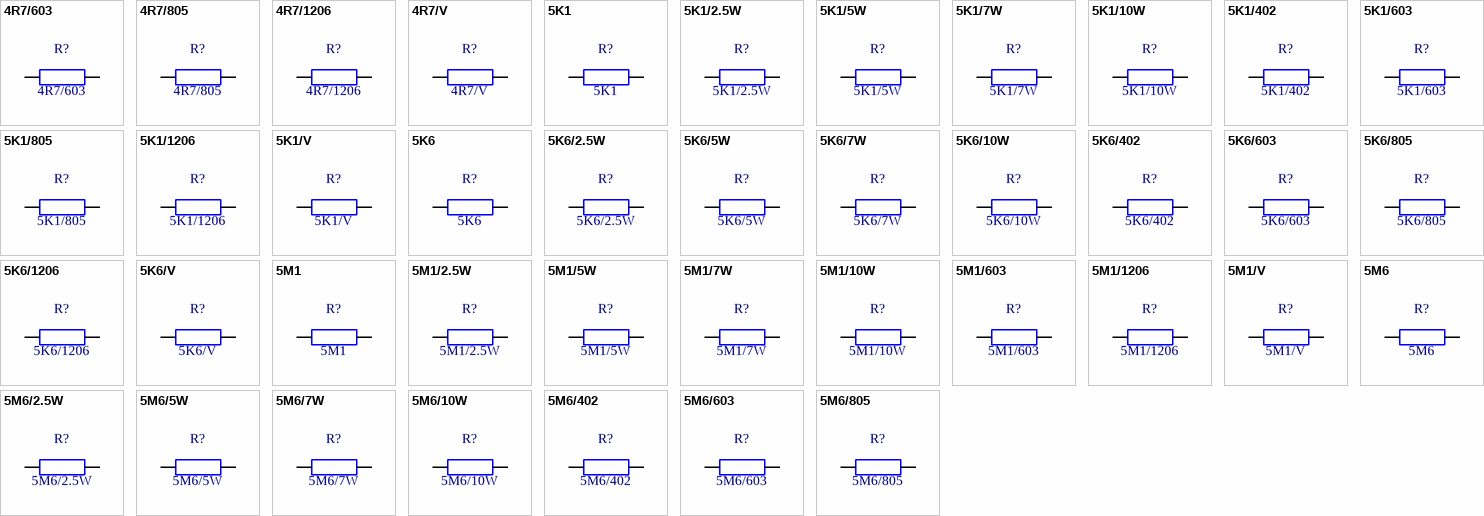
[diagram p42: symbols 4R7/603 to 5M6/805]

## 4R7/603
designator R?
weerstand SMD603, 4R7
footprint smd C0603_0.45
pins: 1, 2

## 4R7/805
designator R?
weerstand SMD805, 4R7
footprint smd C0805_0.50
pins: 1, 2

## 4R7/1206
designator R?
weerstand SMD1206, 4R7
footprint smd C1206_0.55
pins: 1, 2

## 4R7/V
designator R?
weerstand 4R7 0.6W, vertikaal
footprint ws 0.6W V
pins: 1, 2

## 5K1
designator R?
weerstand 5K1 0.6W
footprint ws 0.6W H
pins: 1, 2

## 5K1/2.5W
designator R?
weerstand 5K1 2.5W
footprint ws 2.5W H
pins: 1, 2

## 5K1/5W
designator R?
weerstand 5K1 5W
footprint ws 5W H
pins: 1, 2

## 5K1/7W
designator R?
weerstand 5K1 7W
footprint ws 7W H
pins: 1, 2

## 5K1/10W
designator R?
weerstand 5K1 10W
footprint ws 10W H
pins: 1, 2

## 5K1/402
designator R?
weerstand SMD402, 5K1
footprint smd C0402_0.35
pins: 1, 2

## 5K1/603
designator R?
weerstand SMD603, 5K1
footprint smd C0603_0.45
pins: 1, 2

## 5K1/805
designator R?
weerstand SMD805, 5K1
footprint smd C0805_0.50
pins: 1, 2

## 5K1/1206
designator R?
weerstand SMD1206, 5K1
footprint smd C1206_0.55
pins: 1, 2

## 5K1/V
designator R?
weerstand 5K1 0.6W, vertikaal
footprint ws 0.6W V
pins: 1, 2

## 5K6
designator R?
weerstand 5K6 0.6W
footprint ws 0.6W H
pins: 1, 2

## 5K6/2.5W
designator R?
weerstand 5K6 2.5W
footprint ws 2.5W H
pins: 1, 2

## 5K6/5W
designator R?
weerstand 5K6 5W
footprint ws 5W H
pins: 1, 2

## 5K6/7W
designator R?
weerstand 5K6 7W
footprint ws 7W H
pins: 1, 2

## 5K6/10W
designator R?
weerstand 5K6 10W
footprint ws 10W H
pins: 1, 2

## 5K6/402
designator R?
weerstand SMD402, 5K6
footprint smd C0402_0.35
pins: 1, 2

## 5K6/603
designator R?
weerstand SMD603, 5K6
footprint smd C0603_0.45
pins: 1, 2

## 5K6/805
designator R?
weerstand SMD805, 5K6
footprint smd C0805_0.50
pins: 1, 2

## 5K6/1206
designator R?
weerstand SMD1206, 5K6
footprint smd C1206_0.55
pins: 1, 2

## 5K6/V
designator R?
weerstand 5K6 0.6W, vertikaal
footprint ws 0.6W V
pins: 1, 2

## 5M1
designator R?
weerstand 5M1 0.6W
footprint ws 0.6W H
pins: 1, 2

## 5M1/2.5W
designator R?
weerstand 5M1 2.5W
footprint ws 2.5W H
pins: 1, 2

## 5M1/5W
designator R?
weerstand 5M1 5W
footprint ws 5W H
pins: 1, 2

## 5M1/7W
designator R?
weerstand 5M1 7W
footprint ws 7W H
pins: 1, 2

## 5M1/10W
designator R?
weerstand 5M1 10W
footprint ws 10W H
pins: 1, 2

## 5M1/603
designator R?
weerstand SMD603, 5M1
footprint smd C0603_0.45
pins: 1, 2

## 5M1/1206
designator R?
weerstand SMD1206, 5M1
footprint smd C1206_0.55
pins: 1, 2

## 5M1/V
designator R?
weerstand 5M1 0.6W, vertikaal
footprint ws 0.6W V
pins: 1, 2

## 5M6
designator R?
weerstand 5M6 0.6W
footprint ws 0.6W H
pins: 1, 2

## 5M6/2.5W
designator R?
weerstand 5M6 2.5W
footprint ws 2.5W H
pins: 1, 2

## 5M6/5W
designator R?
weerstand 5M6 5W
footprint ws 5W H
pins: 1, 2

## 5M6/7W
designator R?
weerstand 5M6 7W
footprint ws 7W H
pins: 1, 2

## 5M6/10W
designator R?
weerstand 5M6 10W
footprint ws 10W H
pins: 1, 2

## 5M6/402
designator R?
weerstand SMD402, 5M6
footprint smd C0402_0.35
pins: 1, 2

## 5M6/603
designator R?
weerstand SMD603, 5M6
footprint smd C0603_0.45
pins: 1, 2

## 5M6/805
designator R?
weerstand SMD805, 5M6
footprint smd C0805_0.50
pins: 1, 2

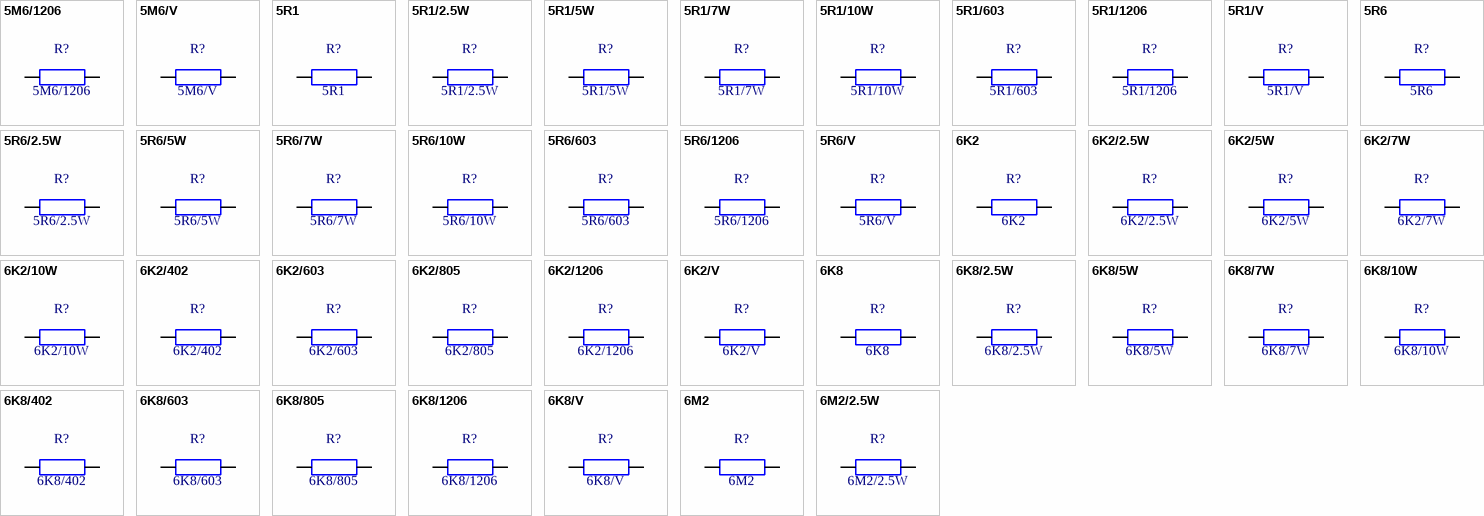
[diagram p43: symbols 5M6/1206 to 6M2/2.5W]

## 5M6/1206
designator R?
weerstand SMD1206, 5M6
footprint smd C1206_0.55
pins: 1, 2

## 5M6/V
designator R?
weerstand 5M6 0.6W, vertikaal
footprint ws 0.6W V
pins: 1, 2

## 5R1
designator R?
weerstand 5R1 0.6W
footprint ws 0.6W H
pins: 1, 2

## 5R1/2.5W
designator R?
weerstand 5R1 2.5W
footprint ws 2.5W H
pins: 1, 2

## 5R1/5W
designator R?
weerstand 5R1 5W
footprint ws 5W H
pins: 1, 2

## 5R1/7W
designator R?
weerstand 5R1 7W
footprint ws 7W H
pins: 1, 2

## 5R1/10W
designator R?
weerstand 5R1 10W
footprint ws 10W H
pins: 1, 2

## 5R1/603
designator R?
weerstand SMD603, 5R1
footprint smd C0603_0.45
pins: 1, 2

## 5R1/1206
designator R?
weerstand SMD1206, 5R1
footprint smd C1206_0.55
pins: 1, 2

## 5R1/V
designator R?
weerstand 5R1 0.6W, vertikaal
footprint ws 0.6W V
pins: 1, 2

## 5R6
designator R?
weerstand 5R6 0.6W
footprint ws 0.6W H
pins: 1, 2

## 5R6/2.5W
designator R?
weerstand 5R6 2.5W
footprint ws 2.5W H
pins: 1, 2

## 5R6/5W
designator R?
weerstand 5R6 5W
footprint ws 5W H
pins: 1, 2

## 5R6/7W
designator R?
weerstand 5R6 7W
footprint ws 7W H
pins: 1, 2

## 5R6/10W
designator R?
weerstand 5R6 10W
footprint ws 10W H
pins: 1, 2

## 5R6/603
designator R?
weerstand SMD603, 5R6
footprint smd C0603_0.45
pins: 1, 2

## 5R6/1206
designator R?
weerstand SMD1206, 5R6
footprint smd C1206_0.55
pins: 1, 2

## 5R6/V
designator R?
weerstand 5R6 0.6W, vertikaal
footprint ws 0.6W V
pins: 1, 2

## 6K2
designator R?
weerstand 6K2 0.6W
footprint ws 0.6W H
pins: 1, 2

## 6K2/2.5W
designator R?
weerstand 6K2 2.5W
footprint ws 2.5W H
pins: 1, 2

## 6K2/5W
designator R?
weerstand 6K2 5W
footprint ws 5W H
pins: 1, 2

## 6K2/7W
designator R?
weerstand 6K2 7W
footprint ws 7W H
pins: 1, 2

## 6K2/10W
designator R?
weerstand 6K2 10W
footprint ws 10W H
pins: 1, 2

## 6K2/402
designator R?
weerstand SMD402, 6K2
footprint smd C0402_0.35
pins: 1, 2

## 6K2/603
designator R?
weerstand SMD603, 6K2
footprint smd C0603_0.45
pins: 1, 2

## 6K2/805
designator R?
weerstand SMD805, 6K2
footprint smd C0805_0.50
pins: 1, 2

## 6K2/1206
designator R?
weerstand SMD1206, 6K2
footprint smd C1206_0.55
pins: 1, 2

## 6K2/V
designator R?
weerstand 6K2 0.6W, vertikaal
footprint ws 0.6W V
pins: 1, 2

## 6K8
designator R?
weerstand 6K8 0.6W
footprint ws 0.6W H
pins: 1, 2

## 6K8/2.5W
designator R?
weerstand 6K8 2.5W
footprint ws 2.5W H
pins: 1, 2

## 6K8/5W
designator R?
weerstand 6K8 5W
footprint ws 5W H
pins: 1, 2

## 6K8/7W
designator R?
weerstand 6K8 7W
footprint ws 7W H
pins: 1, 2

## 6K8/10W
designator R?
weerstand 6K8 10W
footprint ws 10W H
pins: 1, 2

## 6K8/402
designator R?
weerstand SMD402, 6K8
footprint smd C0402_0.35
pins: 1, 2

## 6K8/603
designator R?
weerstand SMD603, 6K8
footprint smd C0603_0.45
pins: 1, 2

## 6K8/805
designator R?
weerstand SMD805, 6K8
footprint smd C0805_0.50
pins: 1, 2

## 6K8/1206
designator R?
weerstand SMD1206, 6K8
footprint smd C1206_0.55
pins: 1, 2

## 6K8/V
designator R?
weerstand 6K8 0.6W, vertikaal
footprint ws 0.6W V
pins: 1, 2

## 6M2
designator R?
weerstand 6M2 0.6W
footprint ws 0.6W H
pins: 1, 2

## 6M2/2.5W
designator R?
weerstand 6M2 2.5W
footprint ws 2.5W H
pins: 1, 2

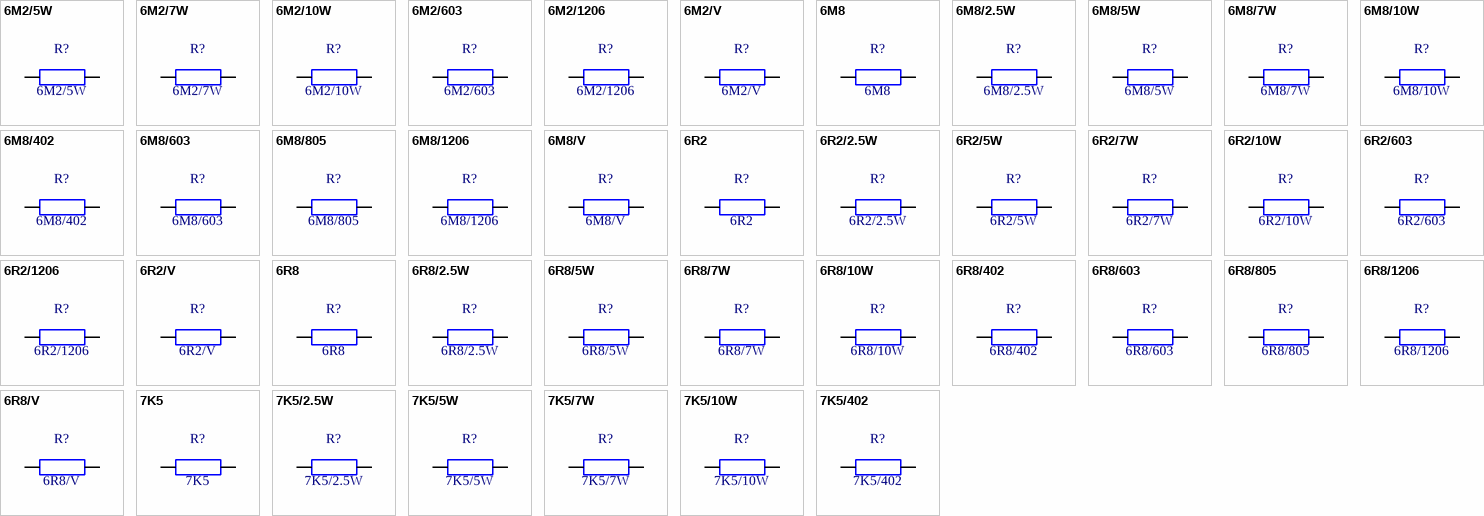
[diagram p44: symbols 6M2/5W to 7K5/402]

## 6M2/5W
designator R?
weerstand 6M2 5W
footprint ws 5W H
pins: 1, 2

## 6M2/7W
designator R?
weerstand 6M2 7W
footprint ws 7W H
pins: 1, 2

## 6M2/10W
designator R?
weerstand 6M2 10W
footprint ws 10W H
pins: 1, 2

## 6M2/603
designator R?
weerstand SMD603, 6M2
footprint smd C0603_0.45
pins: 1, 2

## 6M2/1206
designator R?
weerstand SMD1206, 6M2
footprint smd C1206_0.55
pins: 1, 2

## 6M2/V
designator R?
weerstand 6M2 0.6W, vertikaal
footprint ws 0.6W V
pins: 1, 2

## 6M8
designator R?
weerstand 6M8 0.6W
footprint ws 0.6W H
pins: 1, 2

## 6M8/2.5W
designator R?
weerstand 6M8 2.5W
footprint ws 2.5W H
pins: 1, 2

## 6M8/5W
designator R?
weerstand 6M8 5W
footprint ws 5W H
pins: 1, 2

## 6M8/7W
designator R?
weerstand 6M8 7W
footprint ws 7W H
pins: 1, 2

## 6M8/10W
designator R?
weerstand 6M8 10W
footprint ws 10W H
pins: 1, 2

## 6M8/402
designator R?
weerstand SMD402, 6M8
footprint smd C0402_0.35
pins: 1, 2

## 6M8/603
designator R?
weerstand SMD603, 6M8
footprint smd C0603_0.45
pins: 1, 2

## 6M8/805
designator R?
weerstand SMD805, 6M8
footprint smd C0805_0.50
pins: 1, 2

## 6M8/1206
designator R?
weerstand SMD1206, 6M8
footprint smd C1206_0.55
pins: 1, 2

## 6M8/V
designator R?
weerstand 6M8 0.6W, vertikaal
footprint ws 0.6W V
pins: 1, 2

## 6R2
designator R?
weerstand 6R2 0.6W
footprint ws 0.6W H
pins: 1, 2

## 6R2/2.5W
designator R?
weerstand 6R2 2.5W
footprint ws 2.5W H
pins: 1, 2

## 6R2/5W
designator R?
weerstand 6R2 5W
footprint ws 5W H
pins: 1, 2

## 6R2/7W
designator R?
weerstand 6R2 7W
footprint ws 7W H
pins: 1, 2

## 6R2/10W
designator R?
weerstand 6R2 10W
footprint ws 10W H
pins: 1, 2

## 6R2/603
designator R?
weerstand SMD603, 6R2
footprint smd C0603_0.45
pins: 1, 2

## 6R2/1206
designator R?
weerstand SMD1206, 6R2
footprint smd C1206_0.55
pins: 1, 2

## 6R2/V
designator R?
weerstand 6R2 0.6W, vertikaal
footprint ws 0.6W V
pins: 1, 2

## 6R8
designator R?
weerstand 6R8 0.6W
footprint ws 0.6W H
pins: 1, 2

## 6R8/2.5W
designator R?
weerstand 6R8 2.5W
footprint ws 2.5W H
pins: 1, 2

## 6R8/5W
designator R?
weerstand 6R8 5W
footprint ws 5W H
pins: 1, 2

## 6R8/7W
designator R?
weerstand 6R8 7W
footprint ws 7W H
pins: 1, 2

## 6R8/10W
designator R?
weerstand 6R8 10W
footprint ws 10W H
pins: 1, 2

## 6R8/402
designator R?
weerstand SMD402, 6R8
footprint smd C0402_0.35
pins: 1, 2

## 6R8/603
designator R?
weerstand SMD603, 6R8
footprint smd C0603_0.45
pins: 1, 2

## 6R8/805
designator R?
weerstand SMD805, 6R8
footprint smd C0805_0.50
pins: 1, 2

## 6R8/1206
designator R?
weerstand SMD1206, 6R8
footprint smd C1206_0.55
pins: 1, 2

## 6R8/V
designator R?
weerstand 6R8 0.6W, vertikaal
footprint ws 0.6W V
pins: 1, 2

## 7K5
designator R?
weerstand 7K5 0.6W
footprint ws 0.6W H
pins: 1, 2

## 7K5/2.5W
designator R?
weerstand 7K5 2.5W
footprint ws 2.5W H
pins: 1, 2

## 7K5/5W
designator R?
weerstand 7K5 5W
footprint ws 5W H
pins: 1, 2

## 7K5/7W
designator R?
weerstand 7K5 7W
footprint ws 7W H
pins: 1, 2

## 7K5/10W
designator R?
weerstand 7K5 10W
footprint ws 10W H
pins: 1, 2

## 7K5/402
designator R?
weerstand SMD402, 7K5
footprint smd C0402_0.35
pins: 1, 2

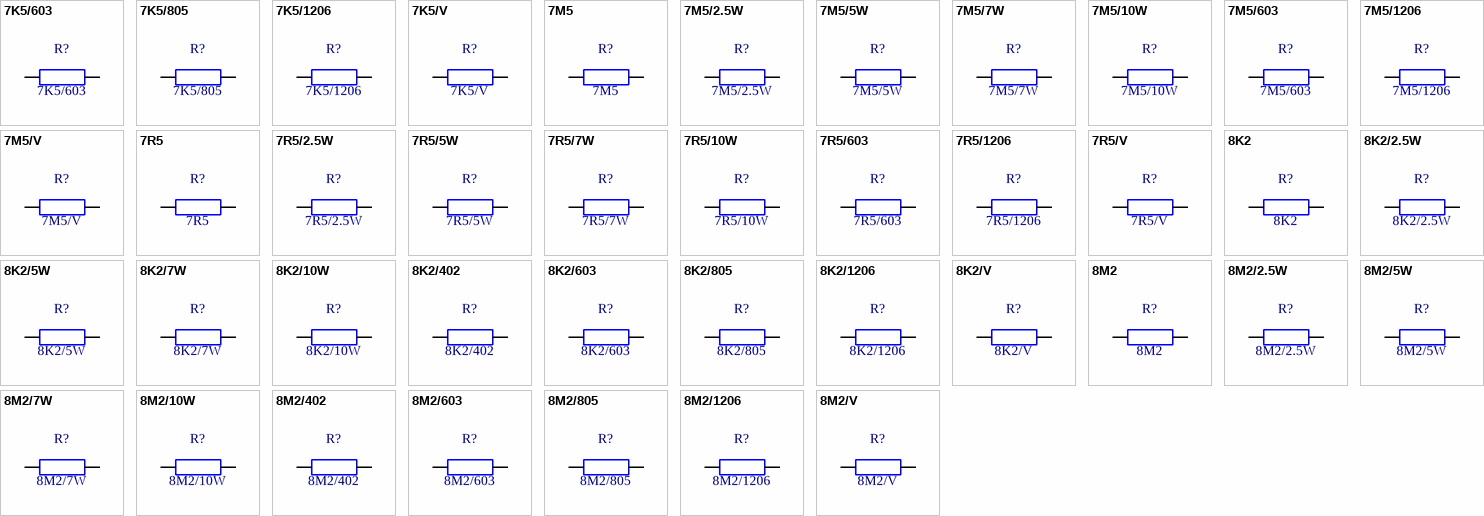
[diagram p45: symbols 7K5/603 to 8M2/V]

## 7K5/603
designator R?
weerstand SMD603, 7K5
footprint smd C0603_0.45
pins: 1, 2

## 7K5/805
designator R?
weerstand SMD805, 7K5
footprint smd C0805_0.50
pins: 1, 2

## 7K5/1206
designator R?
weerstand SMD1206, 7K5
footprint smd C1206_0.55
pins: 1, 2

## 7K5/V
designator R?
weerstand 7K5 0.6W, vertikaal
footprint ws 0.6W V
pins: 1, 2

## 7M5
designator R?
weerstand 7M5 0.6W
footprint ws 0.6W H
pins: 1, 2

## 7M5/2.5W
designator R?
weerstand 7M5 2.5W
footprint ws 2.5W H
pins: 1, 2

## 7M5/5W
designator R?
weerstand 7M5 5W
footprint ws 5W H
pins: 1, 2

## 7M5/7W
designator R?
weerstand 7M5 7W
footprint ws 7W H
pins: 1, 2

## 7M5/10W
designator R?
weerstand 7M5 10W
footprint ws 10W H
pins: 1, 2

## 7M5/603
designator R?
weerstand SMD603, 7M5
footprint smd C0603_0.45
pins: 1, 2

## 7M5/1206
designator R?
weerstand SMD1206, 7M5
footprint smd C1206_0.55
pins: 1, 2

## 7M5/V
designator R?
weerstand 7M5 0.6W, vertikaal
footprint ws 0.6W V
pins: 1, 2

## 7R5
designator R?
weerstand 7R5 0.6W
footprint ws 0.6W H
pins: 1, 2

## 7R5/2.5W
designator R?
weerstand 7R5 2.5W
footprint ws 2.5W H
pins: 1, 2

## 7R5/5W
designator R?
weerstand 7R5 5W
footprint ws 5W H
pins: 1, 2

## 7R5/7W
designator R?
weerstand 7R5 7W
footprint ws 7W H
pins: 1, 2

## 7R5/10W
designator R?
weerstand 7R5 10W
footprint ws 10W H
pins: 1, 2

## 7R5/603
designator R?
weerstand SMD603, 7R5
footprint smd C0603_0.45
pins: 1, 2

## 7R5/1206
designator R?
weerstand SMD1206, 7R5
footprint smd C1206_0.55
pins: 1, 2

## 7R5/V
designator R?
weerstand 7R5 0.6W, vertikaal
footprint ws 0.6W V
pins: 1, 2

## 8K2
designator R?
weerstand 8K2 0.6W
footprint ws 0.6W H
pins: 1, 2

## 8K2/2.5W
designator R?
weerstand 8K2 2.5W
footprint ws 2.5W H
pins: 1, 2

## 8K2/5W
designator R?
weerstand 8K2 5W
footprint ws 5W H
pins: 1, 2

## 8K2/7W
designator R?
weerstand 8K2 7W
footprint ws 7W H
pins: 1, 2

## 8K2/10W
designator R?
weerstand 8K2 10W
footprint ws 10W H
pins: 1, 2

## 8K2/402
designator R?
weerstand SMD402, 8K2
footprint smd C0402_0.35
pins: 1, 2

## 8K2/603
designator R?
weerstand SMD603, 8K2
footprint smd C0603_0.45
pins: 1, 2

## 8K2/805
designator R?
weerstand SMD805, 8K2
footprint smd C0805_0.50
pins: 1, 2

## 8K2/1206
designator R?
weerstand SMD1206, 8K2
footprint smd C1206_0.55
pins: 1, 2

## 8K2/V
designator R?
weerstand 8K2 0.6W, vertikaal
footprint ws 0.6W V
pins: 1, 2

## 8M2
designator R?
weerstand 8M2 0.6W
footprint ws 0.6W H
pins: 1, 2

## 8M2/2.5W
designator R?
weerstand 8M2 2.5W
footprint ws 2.5W H
pins: 1, 2

## 8M2/5W
designator R?
weerstand 8M2 5W
footprint ws 5W H
pins: 1, 2

## 8M2/7W
designator R?
weerstand 8M2 7W
footprint ws 7W H
pins: 1, 2

## 8M2/10W
designator R?
weerstand 8M2 10W
footprint ws 10W H
pins: 1, 2

## 8M2/402
designator R?
weerstand SMD402, 8M2
footprint smd C0402_0.35
pins: 1, 2

## 8M2/603
designator R?
weerstand SMD603, 8M2
footprint smd C0603_0.45
pins: 1, 2

## 8M2/805
designator R?
weerstand SMD805, 8M2
footprint smd C0805_0.50
pins: 1, 2

## 8M2/1206
designator R?
weerstand SMD1206, 8M2
footprint smd C1206_0.55
pins: 1, 2

## 8M2/V
designator R?
weerstand 8M2 0.6W, vertikaal
footprint ws 0.6W V
pins: 1, 2

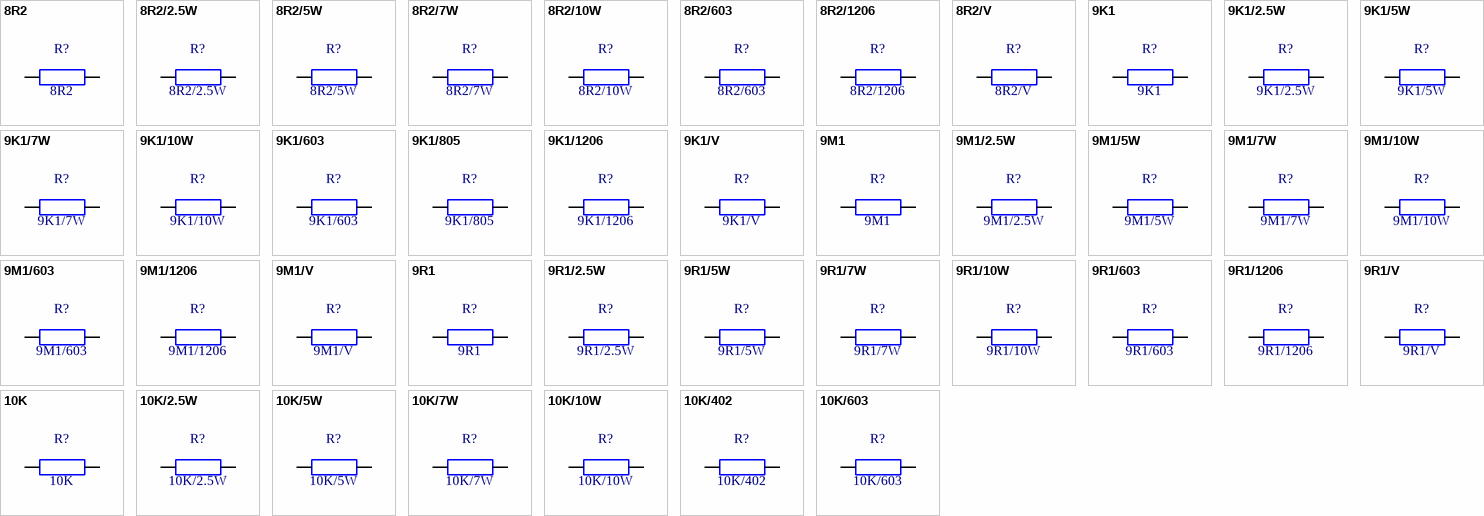
[diagram p46: symbols 8R2 to 10K/603]

## 8R2
designator R?
weerstand 8R2 0.6W
footprint ws 0.6W H
pins: 1, 2

## 8R2/2.5W
designator R?
weerstand 8R2 2.5W
footprint ws 2.5W H
pins: 1, 2

## 8R2/5W
designator R?
weerstand 8R2 5W
footprint ws 5W H
pins: 1, 2

## 8R2/7W
designator R?
weerstand 8R2 7W
footprint ws 7W H
pins: 1, 2

## 8R2/10W
designator R?
weerstand 8R2 10W
footprint ws 10W H
pins: 1, 2

## 8R2/603
designator R?
weerstand SMD603, 8R2
footprint smd C0603_0.45
pins: 1, 2

## 8R2/1206
designator R?
weerstand SMD1206, 8R2
footprint smd C1206_0.55
pins: 1, 2

## 8R2/V
designator R?
weerstand 8R2 0.6W, vertikaal
footprint ws 0.6W V
pins: 1, 2

## 9K1
designator R?
weerstand 9K1 0.6W
footprint ws 0.6W H
pins: 1, 2

## 9K1/2.5W
designator R?
weerstand 9K1 2.5W
footprint ws 2.5W H
pins: 1, 2

## 9K1/5W
designator R?
weerstand 9K1 5W
footprint ws 5W H
pins: 1, 2

## 9K1/7W
designator R?
weerstand 9K1 7W
footprint ws 7W H
pins: 1, 2

## 9K1/10W
designator R?
weerstand 9K1 10W
footprint ws 10W H
pins: 1, 2

## 9K1/603
designator R?
weerstand SMD603, 9K1
footprint smd C0603_0.45
pins: 1, 2

## 9K1/805
designator R?
weerstand SMD805, 9K1
footprint smd C0805_0.50
pins: 1, 2

## 9K1/1206
designator R?
weerstand SMD1206, 9K1
footprint smd C1206_0.55
pins: 1, 2

## 9K1/V
designator R?
weerstand 9K1 0.6W, vertikaal
footprint ws 0.6W V
pins: 1, 2

## 9M1
designator R?
weerstand 9M1 0.6W
footprint ws 0.6W H
pins: 1, 2

## 9M1/2.5W
designator R?
weerstand 9M1 2.5W
footprint ws 2.5W H
pins: 1, 2

## 9M1/5W
designator R?
weerstand 9M1 5W
footprint ws 5W H
pins: 1, 2

## 9M1/7W
designator R?
weerstand 9M1 7W
footprint ws 7W H
pins: 1, 2

## 9M1/10W
designator R?
weerstand 9M1 10W
footprint ws 10W H
pins: 1, 2

## 9M1/603
designator R?
weerstand SMD603, 9M1
footprint smd C0603_0.45
pins: 1, 2

## 9M1/1206
designator R?
weerstand SMD1206, 9M1
footprint smd C1206_0.55
pins: 1, 2

## 9M1/V
designator R?
weerstand 9M1 0.6W, vertikaal
footprint ws 0.6W V
pins: 1, 2

## 9R1
designator R?
weerstand 9R1 0.6W
footprint ws 0.6W H
pins: 1, 2

## 9R1/2.5W
designator R?
weerstand 9R1 2.5W
footprint ws 2.5W H
pins: 1, 2

## 9R1/5W
designator R?
weerstand 9R1 5W
footprint ws 5W H
pins: 1, 2

## 9R1/7W
designator R?
weerstand 9R1 7W
footprint ws 7W H
pins: 1, 2

## 9R1/10W
designator R?
weerstand 9R1 10W
footprint ws 10W H
pins: 1, 2

## 9R1/603
designator R?
weerstand SMD603, 9R1
footprint smd C0603_0.45
pins: 1, 2

## 9R1/1206
designator R?
weerstand SMD1206, 9R1
footprint smd C1206_0.55
pins: 1, 2

## 9R1/V
designator R?
weerstand 9R1 0.6W, vertikaal
footprint ws 0.6W V
pins: 1, 2

## 10K
designator R?
weerstand 10K 0.6W
footprint ws 0.6W H
pins: 1, 2

## 10K/2.5W
designator R?
weerstand 10K 2.5W
footprint ws 2.5W H
pins: 1, 2

## 10K/5W
designator R?
weerstand 10K 5W
footprint ws 5W H
pins: 1, 2

## 10K/7W
designator R?
weerstand 10K 7W
footprint ws 7W H
pins: 1, 2

## 10K/10W
designator R?
weerstand 10K 10W
footprint ws 10W H
pins: 1, 2

## 10K/402
designator R?
weerstand SMD402, 10K
footprint smd C0402_0.35
pins: 1, 2

## 10K/603
designator R?
weerstand SMD603, 10K
footprint smd C0603_0.45
pins: 1, 2

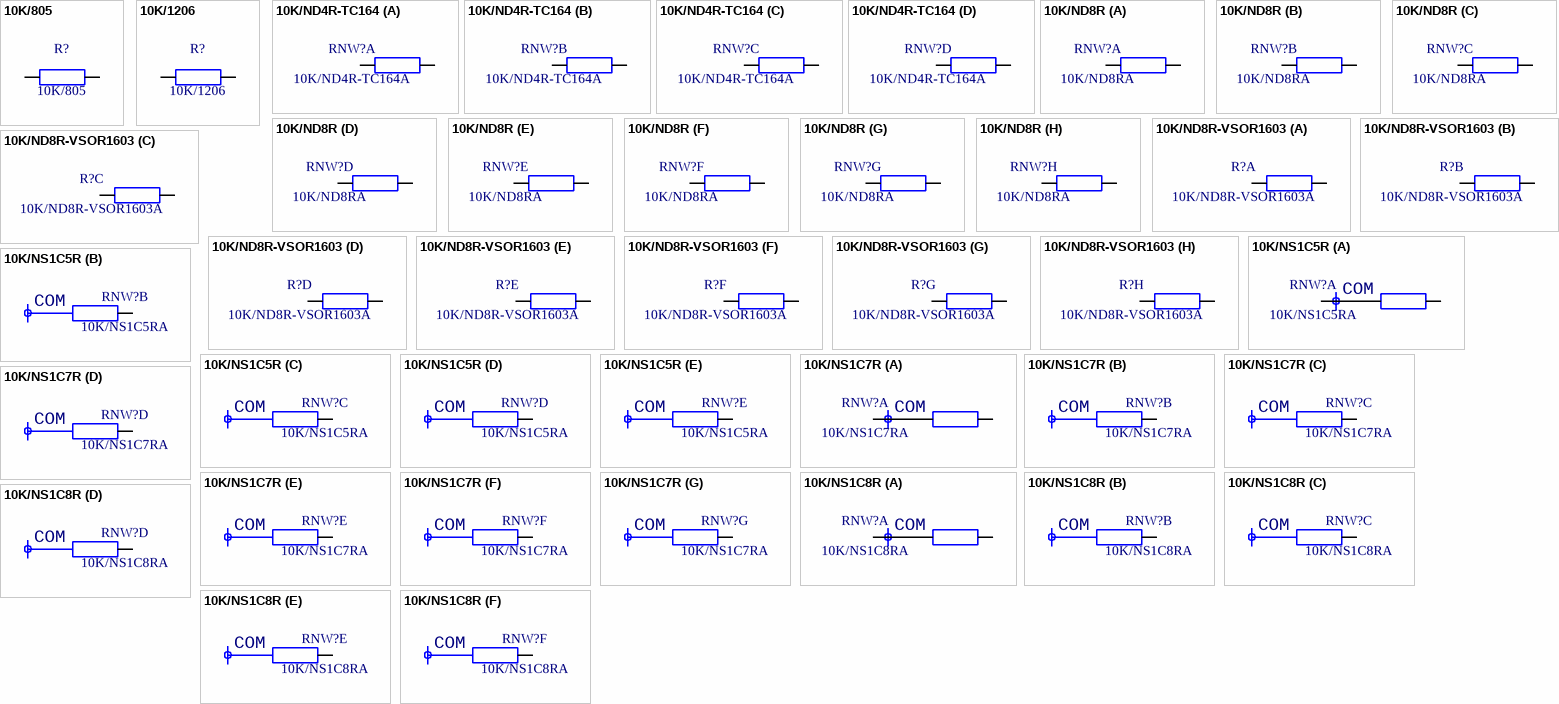
[diagram p47: symbols 10K/805 to 10K/NS1C8R]

## 10K/805
designator R?
weerstand SMD805, 10K
footprint smd C0805_0.50
pins: 1, 2

## 10K/1206
designator R?
weerstand SMD1206, 10K
footprint smd C1206_0.55
pins: 1, 2

## 10K/ND4R-TC164
designator RNW?, comment 10K/ND4R-TC164A
weerstandsnetwerk, DIL, smd, Phycomp TC164, 4 x 10K
footprint smd weerstandsnetwerk 4R (Phycomp TC164)
part A pins: 1, 2
part B pins: 3, 4
part C pins: 5, 6
part D pins: 7, 8

## 10K/ND8R
designator RNW?, comment 10K/ND8RA
weerstandsnetwerk, DIL, 8 x 10K
footprint icv DIP16-300
part A pins: 1, 16
part B pins: 2, 15
part C pins: 3, 14
part D pins: 4, 13
part E pins: 5, 12
part F pins: 6, 11
part G pins: 7, 10
part H pins: 8, 9

## 10K/ND8R-VSOR1603
designator R?, comment 10K/ND8R-VSOR1603A
weerstandsnetwerk, DIL, smd, Vishay VSOR1603, 8 x 10K
footprint smd SOICN/16
part A pins: 1, 16
part B pins: 2, 15
part C pins: 3, 14
part D pins: 4, 13
part E pins: 5, 12
part F pins: 6, 11
part G pins: 7, 10
part H pins: 8, 9

## 10K/NS1C5R
designator RNW?, comment 10K/NS1C5RA
weerstandsnetwerk, SIL, 1 gemeens.pin, 5 weerst., 10K
footprint ws netwerk 5xR 1C (SIL)
part A pins: 1, 2
part B pins: 3
part C pins: 4
part D pins: 5
part E pins: 6
part A text: COM
part B text: COM
part C text: COM
part D text: COM
part E text: COM

## 10K/NS1C7R
designator RNW?, comment 10K/NS1C7RA
weerstandsnetwerk, SIL, 1 gemeens.pin, 7 weerst., 10K
footprint ws netwerk 7xR 1C (SIL)
part A pins: 1, 2
part B pins: 3
part C pins: 4
part D pins: 5
part E pins: 6
part F pins: 7
part G pins: 8
part A text: COM
part B text: COM
part C text: COM
part D text: COM
part E text: COM
part F text: COM
part G text: COM

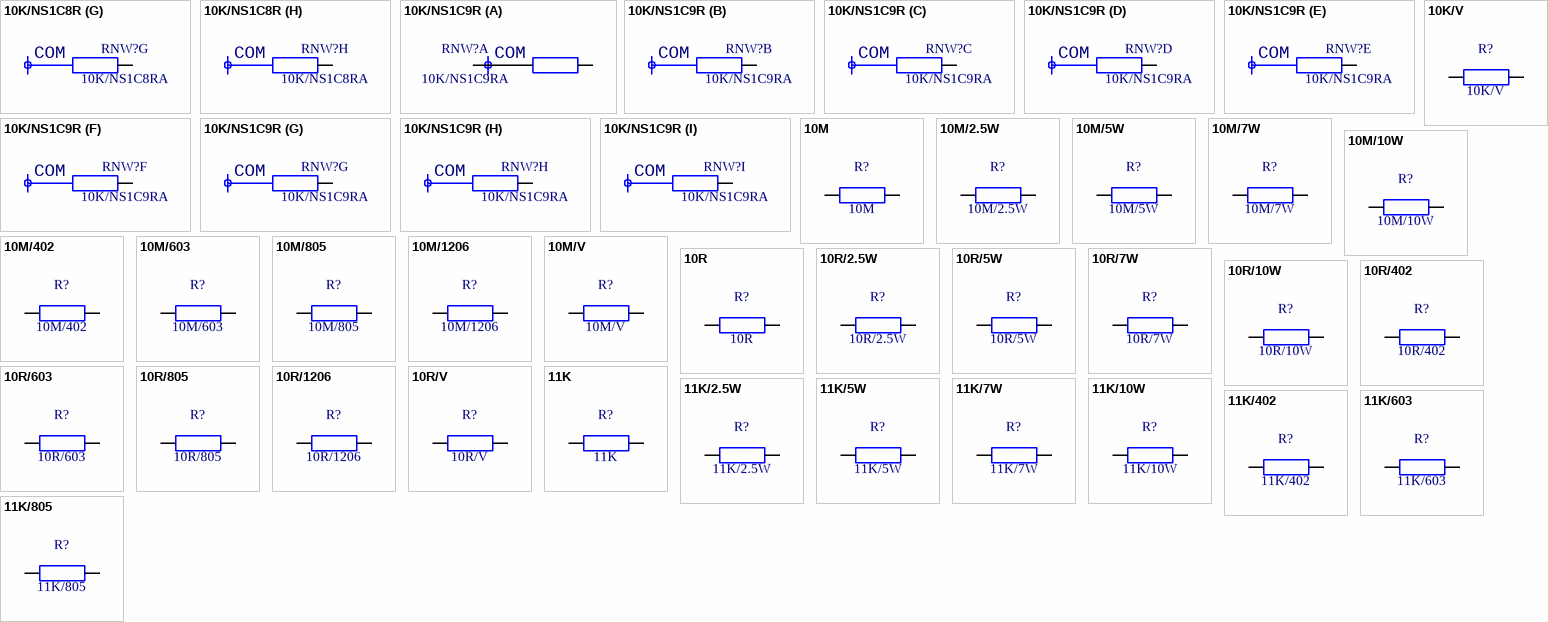
[diagram p48: symbols 10K/NS1C8R to 11K/805]

## 10K/NS1C8R
designator RNW?, comment 10K/NS1C8RA
weerstandsnetwerk, SIL, 1 gemeens.pin, 8 weerst., 10K
footprint ws netwerk 8xR 1C (SIL)
part A pins: 1, 2
part B pins: 3
part C pins: 4
part D pins: 5
part E pins: 6
part F pins: 7
part G pins: 8
part H pins: 9
part A text: COM
part B text: COM
part C text: COM
part D text: COM
part E text: COM
part F text: COM
part G text: COM
part H text: COM

## 10K/NS1C9R
designator RNW?, comment 10K/NS1C9RA
weerstandsnetwerk, SIL, 1 gemeens.pin, 9 weerst., 10K
footprint ws netwerk 9xR 1C (SIL)
part A pins: 1, 2
part B pins: 3
part C pins: 4
part D pins: 5
part E pins: 6
part F pins: 7
part G pins: 8
part H pins: 9
part I pins: 10
part A text: COM
part B text: COM
part C text: COM
part D text: COM
part E text: COM
part F text: COM
part G text: COM
part H text: COM
part I text: COM

## 10K/V
designator R?
weerstand 10K 0.6W, vertikaal
footprint ws 0.6W V
pins: 1, 2

## 10M
designator R?
weerstand 10M 0.6W
footprint ws 0.6W H
pins: 1, 2

## 10M/2.5W
designator R?
weerstand 10M 2.5W
footprint ws 2.5W H
pins: 1, 2

## 10M/5W
designator R?
weerstand 10M 5W
footprint ws 5W H
pins: 1, 2

## 10M/7W
designator R?
weerstand 10M 7W
footprint ws 7W H
pins: 1, 2

## 10M/10W
designator R?
weerstand 10M 10W
footprint ws 10W H
pins: 1, 2

## 10M/402
designator R?
weerstand SMD402, 10M
footprint smd C0402_0.35
pins: 1, 2

## 10M/603
designator R?
weerstand SMD603, 10M
footprint smd C0603_0.45
pins: 1, 2

## 10M/805
designator R?
weerstand SMD805, 10M
footprint smd C0805_0.50
pins: 1, 2

## 10M/1206
designator R?
weerstand SMD1206, 10M
footprint smd C1206_0.55
pins: 1, 2

## 10M/V
designator R?
weerstand 10M 0.6W, vertikaal
footprint ws 0.6W V
pins: 1, 2

## 10R
designator R?
weerstand 10R 0.6W
footprint ws 0.6W H
pins: 1, 2

## 10R/2.5W
designator R?
weerstand 10R 2.5W
footprint ws 2.5W H
pins: 1, 2

## 10R/5W
designator R?
weerstand 10R 5W
footprint ws 5W H
pins: 1, 2

## 10R/7W
designator R?
weerstand 10R 7W
footprint ws 7W H
pins: 1, 2

## 10R/10W
designator R?
weerstand 10R 10W
footprint ws 10W H
pins: 1, 2

## 10R/402
designator R?
weerstand SMD402, 10R
footprint smd C0402_0.35
pins: 1, 2

## 10R/603
designator R?
weerstand SMD603, 10R
footprint smd C0603_0.45
pins: 1, 2

## 10R/805
designator R?
weerstand SMD805, 10R
footprint smd C0805_0.50
pins: 1, 2

## 10R/1206
designator R?
weerstand SMD1206, 10R
footprint smd C1206_0.55
pins: 1, 2

## 10R/V
designator R?
weerstand 10R 0.6W, vertikaal
footprint ws 0.6W V
pins: 1, 2

## 11K
designator R?
weerstand 11K 0.6W
footprint ws 0.6W H
pins: 1, 2

## 11K/2.5W
designator R?
weerstand 11K 2.5W
footprint ws 2.5W H
pins: 1, 2

## 11K/5W
designator R?
weerstand 11K 5W
footprint ws 5W H
pins: 1, 2

## 11K/7W
designator R?
weerstand 11K 7W
footprint ws 7W H
pins: 1, 2

## 11K/10W
designator R?
weerstand 11K 10W
footprint ws 10W H
pins: 1, 2

## 11K/402
designator R?
weerstand SMD402, 11K
footprint smd C0402_0.35
pins: 1, 2

## 11K/603
designator R?
weerstand SMD603, 11K
footprint smd C0603_0.45
pins: 1, 2

## 11K/805
designator R?
weerstand SMD805, 11K
footprint smd C0805_0.50
pins: 1, 2

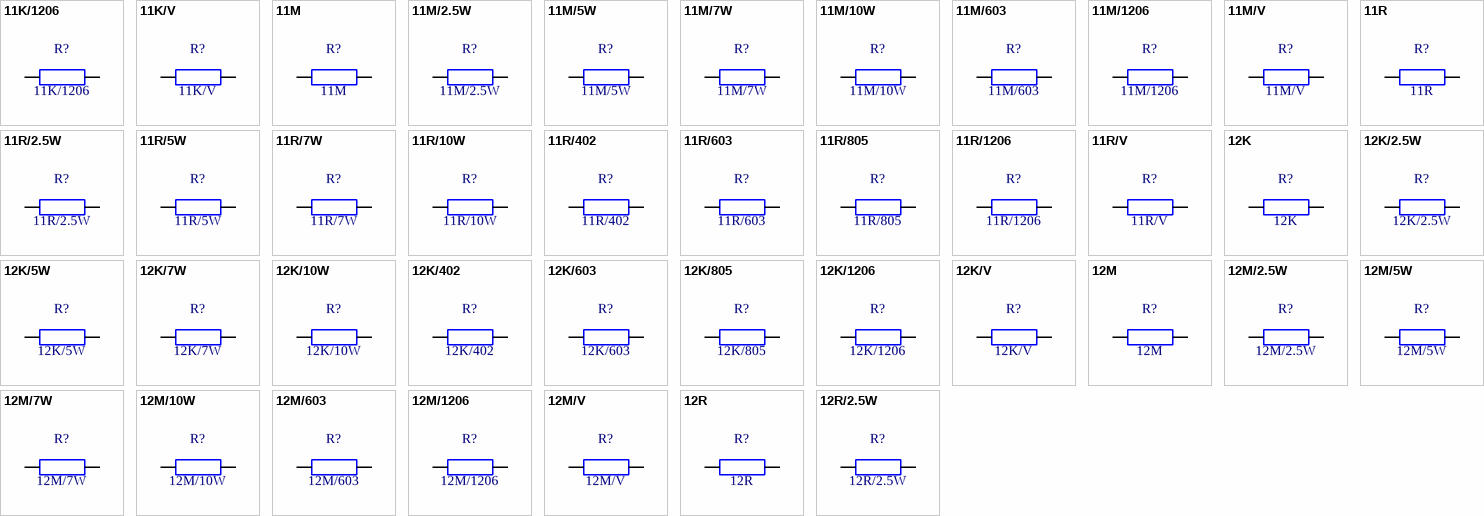
[diagram p49: symbols 11K/1206 to 12R/2.5W]

## 11K/1206
designator R?
weerstand SMD1206, 11K
footprint smd C1206_0.55
pins: 1, 2

## 11K/V
designator R?
weerstand 11K 0.6W, vertikaal
footprint ws 0.6W V
pins: 1, 2